# Altium schematic symbol library STeRG-ICs-Standard.SchLib: 50 symbols (part 1 of 2)
Pins are listed as number, name and electrical type; pins without a type are passive.

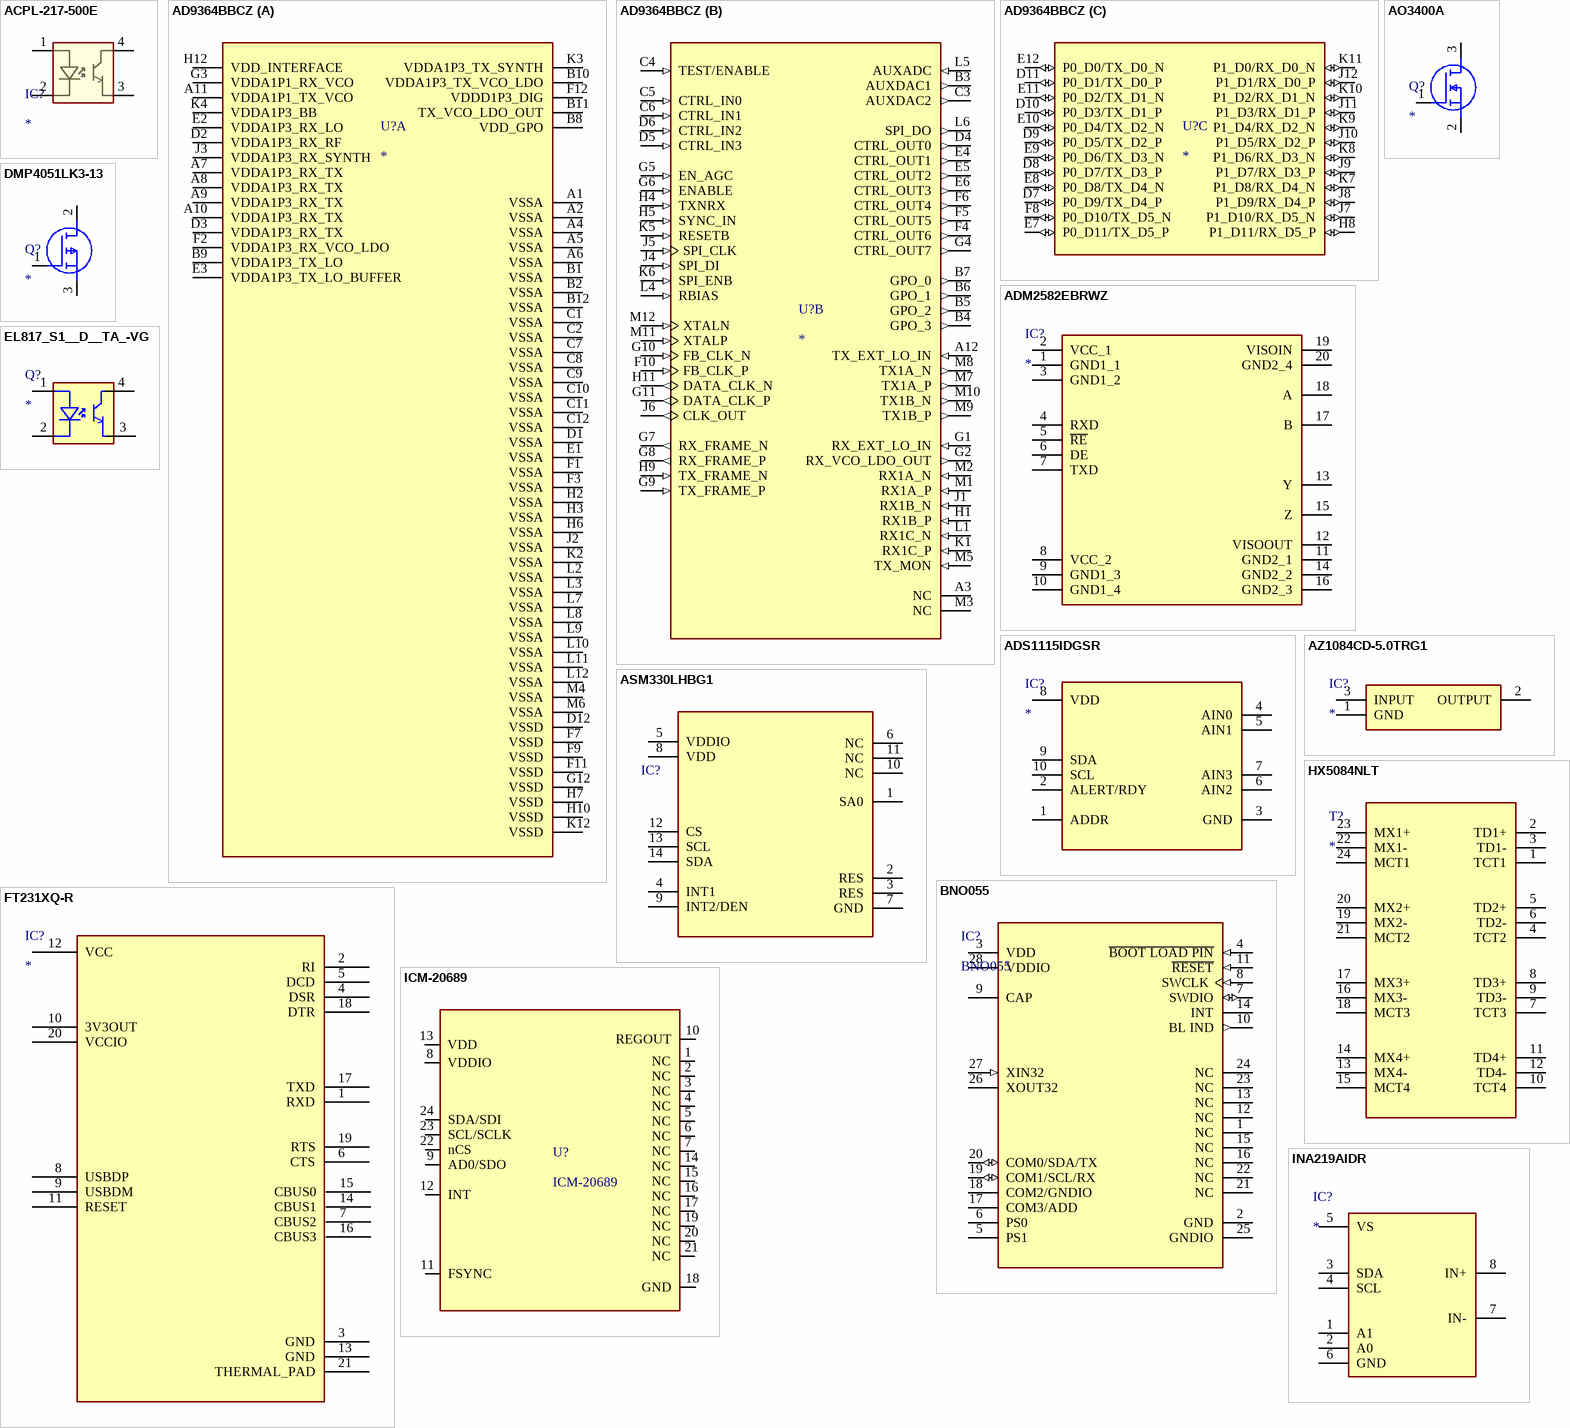
[diagram p0: symbols ACPL-217-500E to INA219AIDR]

## ACPL-217-500E
designator IC?
Optocoupler; Manufacturer_Name: Avago Technologies; Manufacturer_Part_Number: ACPL-217-500E; Datasheet Link: https://datasheet.datasheetarchive.com/originals/distributors/SFDatasheet-4/sf-00083403.pdf; Height: 2.42mm; Mouser Part Number: 630-ACPL-217-500E; Mouser Price/Stock: https://www.mouser.co.uk/ProductDetail/Broadcom-Avago/ACPL-217-500E?qs=dcm2zoLQumDueNtFOKZqaQ%3D%3D
footprint SOIC127P700X242-4N
footprint SOIC127P700X242-4N
pins: 1, 2, 3, 4

## AD9364BBCZ
designator U?
1 x 1 RF Agile Transceiver; MF: Analog Devices; MP: AD9364BBCZ; SnapEDA_Link: https://www.snapeda.com/parts/AD9364BBCZ/Analog+Devices/view-part/?ref=snap; Package: CSPBGA -144 Analog Devices; Value: *; Check_prices: https://www.snapeda.com/parts/AD9364BBCZ/Analog+Devices/view-part/?ref=eda
footprint BGA144C80P12X12_1000X1000X170
part A pins: A1 VSSA (power), A2 VSSA (power), A4 VSSA (power), A5 VSSA (power), A6 VSSA (power), A7 VDDA1P3_RX_TX (power), A8 VDDA1P3_RX_TX (power), A9 VDDA1P3_RX_TX (power), A10 VDDA1P3_RX_TX (power), A11 VDDA1P1_TX_VCO (power), B1 VSSA (power), B2 VSSA (power), B8 VDD_GPO (power), B9 VDDA1P3_TX_LO (power), B10 VDDA1P3_TX_VCO_LDO (power), B11 TX_VCO_LDO_OUT (power), B12 VSSA (power), C1 VSSA (power), C2 VSSA (power), C7 VSSA (power), C8 VSSA (power), C9 VSSA (power), C10 VSSA (power), C11 VSSA (power), C12 VSSA (power), D1 VSSA (power), D2 VDDA1P3_RX_RF (power), D3 VDDA1P3_RX_TX (power), D12 VSSD (power), E1 VSSA (power), E2 VDDA1P3_RX_LO (power), E3 VDDA1P3_TX_LO_BUFFER (power), F1 VSSA (power), F2 VDDA1P3_RX_VCO_LDO (power), F3 VSSA (power), F7 VSSD (power), F9 VSSD (power), F11 VSSD (power), F12 VDDD1P3_DIG (power), G3 VDDA1P1_RX_VCO (power), G12 VSSD (power), H2 VSSA (power), H3 VSSA (power), H6 VSSA (power), H7 VSSD (power), H10 VSSD (power), H12 VDD_INTERFACE (power), J2 VSSA (power), J3 VDDA1P3_RX_SYNTH (power), K2 VSSA (power), K3 VDDA1P3_TX_SYNTH (power), K4 VDDA1P3_BB (power), K12 VSSD (power), L2 VSSA (power), L3 VSSA (power), L7 VSSA (power), L8 VSSA (power), L9 VSSA (power), L10 VSSA (power), L11 VSSA (power), L12 VSSA (power), M4 VSSA (power), M6 VSSA (power)
part B pins: A3 NC, A12 TX_EXT_LO_IN (in), B3 AUXDAC1 (out), B4 GPO_3 (out), B5 GPO_2 (out), B6 GPO_1 (out), B7 GPO_0 (out), C3 AUXDAC2 (out), C4 TEST/ENABLE (in), C5 CTRL_IN0 (in), C6 CTRL_IN1 (in), D4 CTRL_OUT0 (out), D5 CTRL_IN3 (in), D6 CTRL_IN2 (in), E4 CTRL_OUT1 (out), E5 CTRL_OUT2 (out), E6 CTRL_OUT3 (out), F4 CTRL_OUT6 (out), F5 CTRL_OUT5 (out), F6 CTRL_OUT4 (out), F10 FB_CLK_P (in), G1 RX_EXT_LO_IN (in), G2 RX_VCO_LDO_OUT (out), G4 CTRL_OUT7 (out), G5 EN_AGC (in), G6 ENABLE (in), G7 RX_FRAME_N (out), G8 RX_FRAME_P (out), G9 TX_FRAME_P (in), G10 FB_CLK_N (in), G11 DATA_CLK_P (out), H1 RX1B_P (in), H4 TXNRX (in), H5 SYNC_IN (in), H9 TX_FRAME_N (in), H11 DATA_CLK_N (out), J1 RX1B_N (in), J4 SPI_DI (in), J5 SPI_CLK (in), J6 CLK_OUT (out), K1 RX1C_P (in), K5 RESETB (in), K6 SPI_ENB (in), L1 RX1C_N (in), L4 RBIAS (in), L5 AUXADC (in), L6 SPI_DO (out), M1 RX1A_P (in), M2 RX1A_N (in), M3 NC, M5 TX_MON (in), M7 TX1A_P (out), M8 TX1A_N (out), M9 TX1B_P (out), M10 TX1B_N (out), M11 XTALP (in), M12 XTALN (in)
part C pins: D7 P0_D9/TX_D4_P (io), D8 P0_D7/TX_D3_P (io), D9 P0_D5/TX_D2_P (io), D10 P0_D3/TX_D1_P (io), D11 P0_D1/TX_D0_P (io), E7 P0_D11/TX_D5_P (io), E8 P0_D8/TX_D4_N (io), E9 P0_D6/TX_D3_N (io), E10 P0_D4/TX_D2_N (io), E11 P0_D2/TX_D1_N (io), E12 P0_D0/TX_D0_N (io), F8 P0_D10/TX_D5_N (io), H8 P1_D11/RX_D5_P (io), J7 P1_D10/RX_D5_N (io), J8 P1_D9/RX_D4_P (io), J9 P1_D7/RX_D3_P (io), J10 P1_D5/RX_D2_P (io), J11 P1_D3/RX_D1_P (io), J12 P1_D1/RX_D0_P (io), K7 P1_D8/RX_D4_N (io), K8 P1_D6/RX_D3_N (io), K9 P1_D4/RX_D2_N (io), K10 P1_D2/RX_D1_N (io), K11 P1_D0/RX_D0_N (io)

## ADM2582EBRWZ
designator IC?
Integrated Circuit; Manufacturer_Name: Analog Devices; Manufacturer_Part_Number: ADM2582EBRWZ; Datasheet Link: http://www.analog.com/static/imported-files/data_sheets/ADM2582E_2587E.pdf; Height: 2.65mm; Mouser Part Number: 584-ADM2582EBRWZ; Mouser Price/Stock: https://www.mouser.co.uk/ProductDetail/Analog-Devices/ADM2582EBRWZ?qs=BpaRKvA4VqEUmXw45IunQg%3D%3D; Arrow Part Number: ADM2582EBRWZ; Arrow Price/Stock: https://www.arrow.com/en/products/adm2582ebrwz/analog-devices?utm_currency=USD&region=nac
footprint SOIC127P1032X265-20N
pins: 1 GND1_1, 2 VCC_1, 3 GND1_2, 4 RXD, 5 ~{RE}, 6 DE, 7 TXD, 8 VCC_2, 9 GND1_3, 10 GND1_4, 11 GND2_1, 12 VISOOUT, 13 Y, 14 GND2_2, 15 Z, 16 GND2_3, 17 B, 18 A, 19 VISOIN, 20 GND2_4

## ADS1115IDGSR
designator IC?
Integrated Circuit; Manufacturer_Name: Texas Instruments; Manufacturer_Part_Number: ADS1115IDGSR; Datasheet Link: http://www.ti.com/lit/gpn/ADS1115; Height: 1.1mm; Mouser Part Number: 595-ADS1115IDGSR; Mouser Price/Stock: https://www.mouser.co.uk/ProductDetail/Texas-Instruments/ADS1115IDGSR?qs=IK5e5L0zOXjKCJoVMhYO%2FQ%3D%3D; Arrow Part Number: ADS1115IDGSR; Arrow Price/Stock: https://www.arrow.com/en/products/ads1115idgsr/texas-instruments?utm_currency=USD&region=nac
footprint SOP50P490X110-10N
pins: 1 ADDR, 2 ALERT/RDY, 3 GND, 4 AIN0, 5 AIN1, 6 AIN2, 7 AIN3, 8 VDD, 9 SDA, 10 SCL

## AO3400A
designator Q?
MOSFET (N-Channel); Manufacturer_Name: Alpha & Omega Semiconductors; Manufacturer_Part_Number: AO3400A; Datasheet Link: http://aosmd.com/res/data_sheets/AO3400A.pdf; Height: 1.25mm; Arrow Part Number: AO3400A; Arrow Price/Stock: https://www.arrow.com/en/products/ao3400a/alpha-and-omega-semiconductor?utm_currency=USD&region=nac
footprint SOT95P280X125-3N
pins: 1 G, 2 S, 3 D

## ASM330LHBG1
designator IC?
footprint LGA-14L 2.5 x 3.0 x 0.86
pins: 1 SA0, 2 RES, 3 RES, 4 INT1, 5 VDDIO, 6 NC, 7 GND, 8 VDD, 9 INT2/DEN, 10 NC, 11 NC, 12 CS, 13 SCL, 14 SDA

## AZ1084CD-5.0TRG1
designator IC?
Integrated Circuit; Manufacturer_Name: Diodes Incorporated; Manufacturer_Part_Number: AZ1084CD-1.8TRG1; Datasheet Link: https://www.diodes.com//assets/Datasheets/AZ1084C.pdf; Height: 2.527mm; Mouser Part Number: 621-AZ1084CD-1.8TRG1; Mouser Price/Stock: https://www.mouser.co.uk/ProductDetail/Diodes-Incorporated/AZ1084CD-1.8TRG1?qs=5V6w%252Be2aIqZZEOFKaZZErQ%3D%3D; Arrow Part Number: AZ1084CD-1.8TRG1; Arrow Price/Stock: https://www.arrow.com/en/products/az1084cd-1.8trg1/diodes-incorporated
footprint AZ1084CD18TRG1
pins: 1 GND, 2 OUTPUT, 3 INPUT

## BNO055
designator IC?
footprint BNO0XX
pins: 1 NC, 2 GND, 3 VDD (power), 4 ~{BOOT LOAD PIN} (in), 5 PS1, 6 PS0, 7 SWDIO (io), 8 SWCLK (in), 9 CAP, 10 BL IND (out), 11 ~{RESET} (in), 12 NC, 13 NC, 14 INT, 15 NC, 16 NC, 17 COM3/ADD, 18 COM2/GNDIO, 19 COM1/SCL/RX (io), 20 COM0/SDA/TX (io), 21 NC, 22 NC, 23 NC, 24 NC, 25 GNDIO, 26 XOUT32, 27 XIN32 (in), 28 VDDIO (power)

## DMP4051LK3-13
designator Q?
MOSFET (P-Channel); Manufacturer_Name: Diodes Incorporated; Manufacturer_Part_Number: DMP4051LK3-13; Datasheet Link: https://www.diodes.com//assets/Datasheets/DMP4051LK3.pdf; Height: 2.52mm; Mouser Part Number: 621-DMP4051LK3-13; Mouser Price/Stock: https://www.mouser.co.uk/ProductDetail/Diodes-Incorporated/DMP4051LK3-13?qs=4YT44p7w2bvk9gQBZgRolw%3D%3D; Arrow Part Number: DMP4051LK3-13; Arrow Price/Stock: https://www.arrow.com/en/products/dmp4051lk3-13/diodes-incorporated?utm_currency=USD&region=nac
footprint ST_DPAK_1
pins: 1 G, 2 D, 3 S

## EL817_S1__D__TA_-VG
designator Q?
Optocoupler; Manufacturer_Name: Everlight; Manufacturer_Part_Number: EL817(S1)(D)(TA)-VG; Datasheet Link: http://www.mouser.com/ds/2/143/201407061834389632-598371.pdf; Height: 3.9mm; Mouser Part Number: 638-EL817S1DTA-VG; Mouser Price/Stock: https://www.mouser.co.uk/ProductDetail/Everlight/EL817S1DTA-VG?qs=8PzhAHr7IdOwcx8dMEEN7g%3D%3D; ComponentLink1Description: Purchase; ComponentLink1URL: https://robu.in/product/el817-smd-4-transistor-output-optocoupler/
footprint SOP254P1030X390-4N
pins: 1, 2, 3, 4

## FT231XQ-R
designator IC?
Integrated Circuit; Manufacturer_Name: FTDI Chip; Manufacturer_Part_Number: FT231XQ-R; Datasheet Link: http://www.ftdichip.com/Support/Documents/DataSheets/ICs/DS_FT231X.pdf; Height: 0.8mm; Mouser Part Number: 895-FT231XQ-R; Mouser Price/Stock: https://www.mouser.co.uk/ProductDetail/FTDI/FT231XQ-R?qs=Gp1Yz1mis3VkAf3iW%252BkumQ%3D%3D; Arrow Part Number: FT231XQ-R; Arrow Price/Stock: https://www.arrow.com/en/products/ft231xq-r/ftdi-chip?region=nac
footprint QFN50P400X400X80-21N
pins: 1 RXD, 2 RI, 3 GND, 4 DSR, 5 DCD, 6 CTS, 7 CBUS2, 8 USBDP, 9 USBDM, 10 3V3OUT, 11 RESET, 12 VCC, 13 GND, 14 CBUS1, 15 CBUS0, 16 CBUS3, 17 TXD, 18 DTR, 19 RTS, 20 VCCIO, 21 THERMAL_PAD

## HX5084NLT
designator T?
Ethernet Signal Transformer; Manufacturer_Name: YAGEO; Manufacturer_Part_Number: HX5084NLT; Datasheet Link: https://productfinder.pulseelectronics.com/api/open/part-attachments/datasheet/hx5084nlt; Height: 4.1402mm; Mouser Part Number: 673-HX5084NLT; Mouser Price/Stock: https://www.mouser.co.uk/ProductDetail/Pulse-Electronics/HX5084NLT?qs=afupL77xwePI46UjbaB5Gg%3D%3D; Arrow Part Number: HX5084NLT; Arrow Price/Stock: https://www.arrow.com/en/products/hx5084nlt/pulse-electronics-corporation?utm_currency=USD&region=nac
footprint HX5084NLT
pins: 1 TCT1, 2 TD1+, 3 TD1-, 4 TCT2, 5 TD2+, 6 TD2-, 7 TCT3, 8 TD3+, 9 TD3-, 10 TCT4, 11 TD4+, 12 TD4-, 13 MX4-, 14 MX4+, 15 MCT4, 16 MX3-, 17 MX3+, 18 MCT3, 19 MX2-, 20 MX2+, 21 MCT2, 22 MX1-, 23 MX1+, 24 MCT1

## ICM-20689
designator U?
High Performance 6-Axis MEMS IMU; Manufacturer: TDK InvenSense; Manufacturer Part Number: ICM-20689
footprint QFN50P400X400X95_HS-25N (Footprint not found)
pins: 1 NC, 2 NC, 3 NC, 4 NC, 5 NC, 6 NC, 7 NC, 8 VDDIO, 9 AD0/SDO, 10 REGOUT, 11 FSYNC, 12 INT, 13 VDD, 14 NC, 15 NC, 16 NC, 17 NC, 18 GND, 19 NC, 20 NC, 21 NC, 22 nCS, 23 SCL/SCLK, 24 SDA/SDI

## INA219AIDR
designator IC?
Integrated Circuit; Manufacturer_Name: Texas Instruments; Manufacturer_Part_Number: INA219AIDR; Datasheet Link: http://www.ti.com/lit/gpn/ina219; Height: 1.75mm; Mouser Part Number: 595-INA219AIDR; Mouser Price/Stock: https://www.mouser.co.uk/ProductDetail/Texas-Instruments/INA219AIDR?qs=XGzIaZb%2FFYIE5YcOHTnKDA%3D%3D; Arrow Part Number: INA219AIDR; Arrow Price/Stock: https://www.arrow.com/en/products/ina219aidr/texas-instruments?utm_currency=USD&region=nac
footprint SOIC127P600X175-8N
pins: 1 A1, 2 A0, 3 SDA, 4 SCL, 5 VS, 6 GND, 7 IN-, 8 IN+

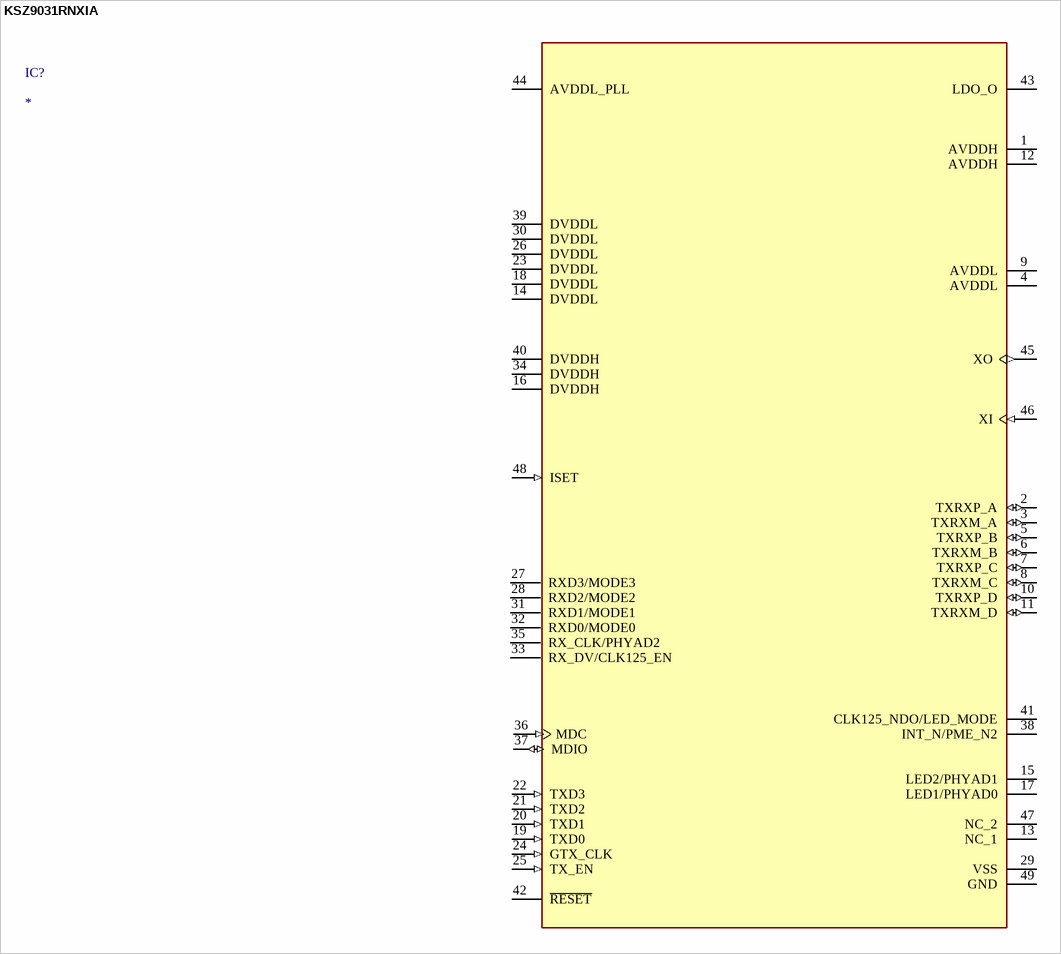
[diagram p1: symbol KSZ9031RNXIA]

## KSZ9031RNXIA
designator IC?
RGMII Ethernet Transceiver with VDDL LDO; Manufacturer_Name: Microchip; Manufacturer_Part_Number: KSZ9031RNXIA; Datasheet Link: https://ww1.microchip.com/downloads/en/devicedoc/00002117f.pdf; Height: 0.9mm; Mouser Part Number: 998-KSZ9031RNXIA; Mouser Price/Stock: https://www.mouser.co.uk/ProductDetail/Microchip-Technology/KSZ9031RNXIA?qs=lBdOJv1PVCGadCZMzb63mg%3D%3D; Arrow Part Number: KSZ9031RNXIA; Arrow Price/Stock: https://www.arrow.com/en/products/ksz9031rnxia/microchip-technology?region=europe
footprint QFN50P700X700X90-49N
pins: 1 AVDDH, 2 TXRXP_A (io), 3 TXRXM_A (io), 4 AVDDL, 5 TXRXP_B (io), 6 TXRXM_B (io), 7 TXRXP_C (io), 8 TXRXM_C (io), 9 AVDDL, 10 TXRXP_D (io), 11 TXRXM_D (io), 12 AVDDH, 13 NC_1, 14 DVDDL, 15 LED2/PHYAD1, 16 DVDDH, 17 LED1/PHYAD0, 18 DVDDL, 19 TXD0 (in), 20 TXD1 (in), 21 TXD2 (in), 22 TXD3 (in), 23 DVDDL, 24 GTX_CLK (in), 25 TX_EN (in), 26 DVDDL, 27 RXD3/MODE3, 28 RXD2/MODE2, 29 VSS, 30 DVDDL, 31 RXD1/MODE1, 32 RXD0/MODE0, 33 RX_DV/CLK125_EN, 34 DVDDH, 35 RX_CLK/PHYAD2, 36 MDC (in), 37 MDIO (io), 38 INT_N/PME_N2, 39 DVDDL, 40 DVDDH, 41 CLK125_NDO/LED_MODE, 42 ~{RESET}, 43 LDO_O, 44 AVDDL_PLL, 45 XO (out), 46 XI (in), 47 NC_2, 48 ISET (in), 49 GND

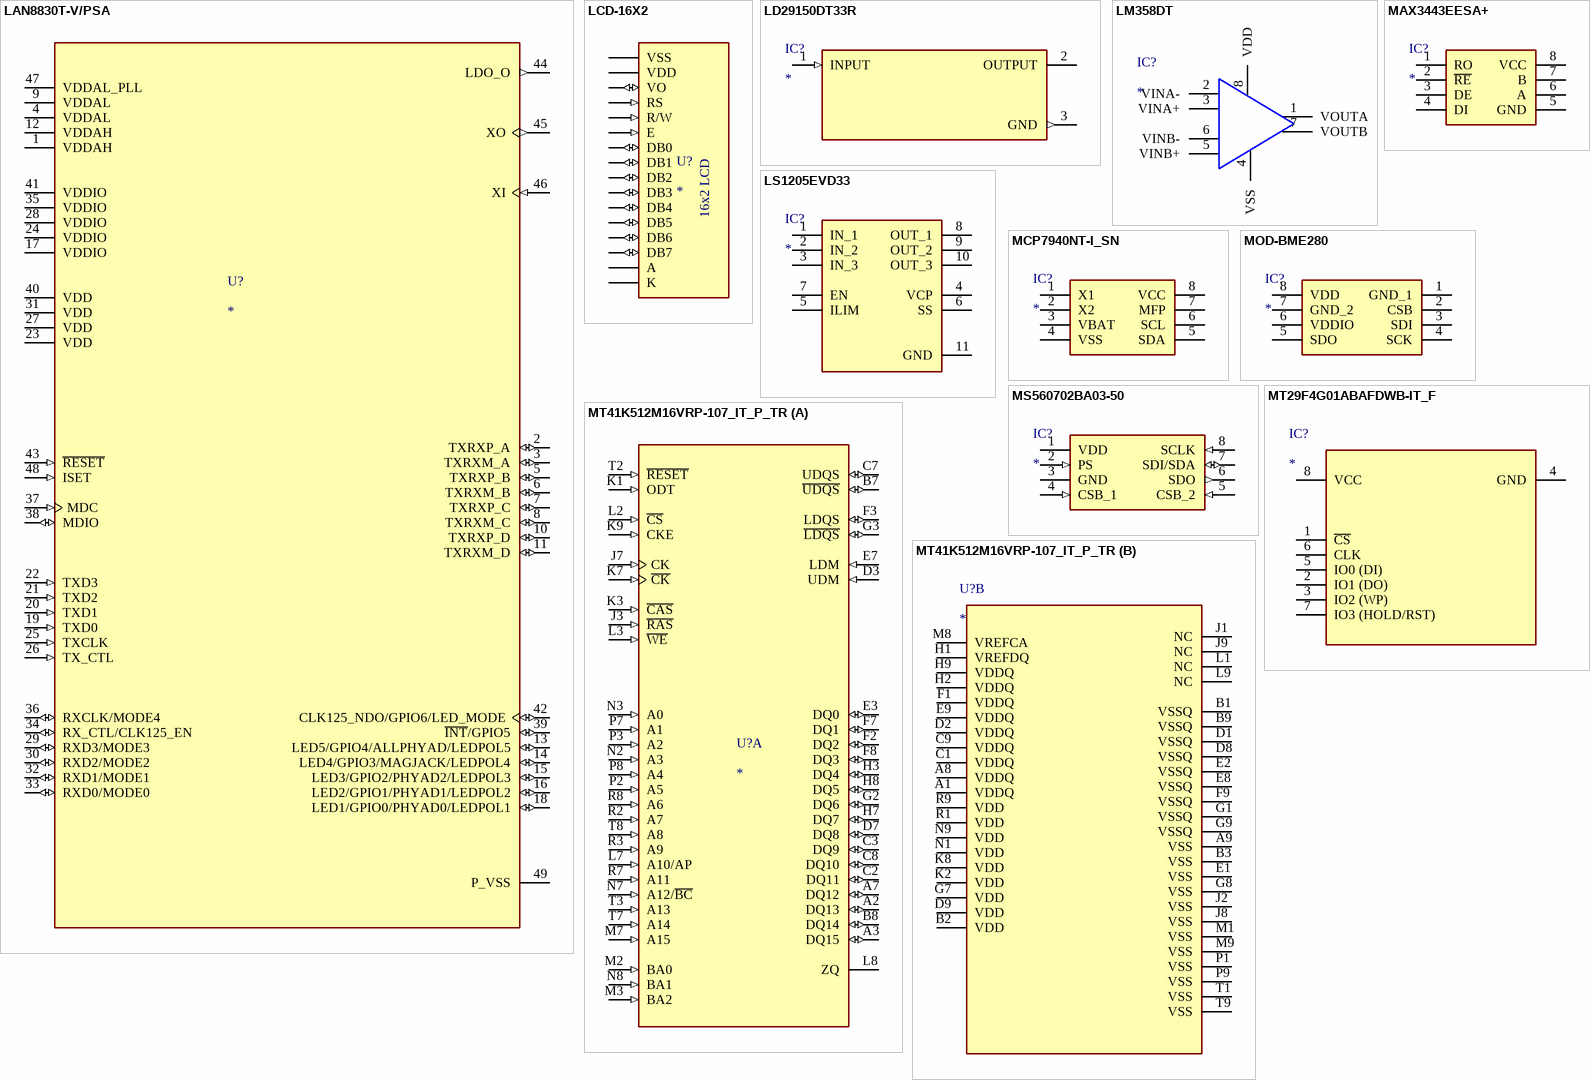
[diagram p2: symbols LAN8830T-V/PSA to MT41K512M16VRP-107_IT_P_TR]

## LAN8830T-V/PSA
designator U?
4/4 Transceiver Full, Half Ethernet 48-VQFN (7x7); MF: Microchip Technology; MP: LAN8830T-V/PSA; SnapEDA_Link: https://www.snapeda.com/parts/LAN8830T-V/PSA/Microchip+Technology/view-part/?ref=snap; Package: None; Value: *; Check_prices: https://www.snapeda.com/parts/LAN8830T-V/PSA/Microchip+Technology/view-part/?ref=eda
footprint QFN50P700X700X100-49N
pins: 1 VDDAH (power), 2 TXRXP_A (io), 3 TXRXM_A (io), 4 VDDAL (power), 5 TXRXP_B (io), 6 TXRXM_B (io), 7 TXRXP_C (io), 8 TXRXM_C (io), 9 VDDAL (power), 10 TXRXP_D (io), 11 TXRXM_D (io), 12 VDDAH (power), 13 LED5/GPIO4/ALLPHYAD/LEDPOL5 (io), 14 LED4/GPIO3/MAGJACK/LEDPOL4 (io), 15 LED3/GPIO2/PHYAD2/LEDPOL3 (io), 16 LED2/GPIO1/PHYAD1/LEDPOL2 (io), 17 VDDIO (power), 18 LED1/GPIO0/PHYAD0/LEDPOL1 (io), 19 TXD0 (in), 20 TXD1 (in), 21 TXD2 (in), 22 TXD3 (in), 23 VDD (power), 24 VDDIO (power), 25 TXCLK (in), 26 TX_CTL (in), 27 VDD (power), 28 VDDIO (power), 29 RXD3/MODE3 (io), 30 RXD2/MODE2 (io), 31 VDD (power), 32 RXD1/MODE1 (io), 33 RXD0/MODE0 (io), 34 RX_CTL/CLK125_EN (io), 35 VDDIO (power), 36 RXCLK/MODE4 (io), 37 MDC (in), 38 MDIO (io), 39 ~{INT}/GPIO5 (io), 40 VDD (power), 41 VDDIO (power), 42 CLK125_NDO/GPIO6/LED_MODE (io), 43 ~{RESET} (in), 44 LDO_O (out), 45 XO (out), 46 XI (in), 47 VDDAL_PLL (power), 48 ISET (in), 49 P_VSS (power)

## LCD-16X2
designator U?
Display Development Tools 16x2 Black on Green Char LCD w Backlight; MF: Gravitech; MP: LCD-16X2; SnapEDA_Link: https://www.snapeda.com/parts/LCD-16X2/Gravitech/view-part/?ref=snap; Package: None; Value: *; Check_prices: https://www.snapeda.com/parts/LCD-16X2/Gravitech/view-part/?ref=eda
footprint MODULE_LCD-16X2
pins: 1 VSS (power), 2 VDD (power), 3 VO (io), 4 RS (in), 5 R/W (in), 6 E (in), 7 DB0 (io), 8 DB1 (io), 9 DB2 (io), 10 DB3 (io), 11 DB4 (io), 12 DB5 (io), 13 DB6 (io), 14 DB7 (io), 15 A (power), 16 K (power)
text: 16x2 LCD

## LD29150DT33R
designator IC?
Integrated Circuit; Manufacturer_Name: STMicroelectronics; Manufacturer_Part_Number: LD29150DT33R; Datasheet Link: http://www.st.com/web/en/resource/technical/document/datasheet/CD00003403.pdf; Mouser Part Number: 511-LD29150DT33R; Mouser Price/Stock: https://www.mouser.co.uk/ProductDetail/STMicroelectronics/LD29150DT33R?qs=M4RLcaOHglr1iYLz8rxZ4g%3D%3D; Arrow Part Number: LD29150DT33R; Arrow Price/Stock: https://www.arrow.com/en/products/ld29150dt33r/stmicroelectronics?region=nac
footprint ST_DPAK_1
pins: 1 INPUT (in), 2 OUTPUT, 3 GND (out)

## LM358DT
designator IC?
Integrated Circuit; Manufacturer_Name: Microchip; Manufacturer_Part_Number: MCP6002-I/SN; Datasheet Link: https://datasheet.datasheetarchive.com/originals/distributors/SFDatasheet-4/sf-00090086.pdf; Height: 1.75mm; Mouser Part Number: 579-MCP6002-I/SN; Mouser Price/Stock: https://www.mouser.co.uk/ProductDetail/Microchip-Technology/MCP6002-I-SN?qs=cQYLKLPzRJlt69SDaZwGcA%3D%3D; Arrow Part Number: MCP6002-I/SN; Arrow Price/Stock: https://www.arrow.com/en/products/mcp6002-isn/microchip-technology?region=nac
footprint SOIC127P600X175-8N
pins: 1 VOUTA, 2 VINA-, 3 VINA+, 4 VSS, 5 VINB+, 6 VINB-, 7 VOUTB, 8 VDD

## LS1205EVD33
designator IC?
EFuse IC; Manufacturer_Name: LITTELFUSE; Manufacturer_Part_Number: LS1205EVD33; Datasheet Link: https://www.littelfuse.com/media?resourcetype=datasheets&itemid=b40a8809-c1ad-459d-a34c-84532dbddcb7&filename=littelfuse-protection-ic-ls1205exd33--datasheet; Height: 0.8mm; Mouser Part Number: 576-LS1205EVD33; Mouser Price/Stock: https://www.mouser.co.uk/ProductDetail/Littelfuse/LS1205EVD33?qs=4ASt3YYao0VRtislHe5uQQ%3D%3D; Arrow Part Number: LS1205EVD33; Arrow Price/Stock: https://www.arrow.com/en/products/ls1205evd33/littelfuse?utm_currency=USD&region=nac
footprint LS1205EVD33
pins: 1 IN_1, 2 IN_2, 3 IN_3, 4 VCP, 5 ILIM, 6 SS, 7 EN, 8 OUT_1, 9 OUT_2, 10 OUT_3, 11 GND

## MAX3443EESA+
designator IC?
Integrated Circuit; Manufacturer_Name: Analog Devices; Manufacturer_Part_Number: MAX3443EESA+; Datasheet Link: https://datasheet.datasheetarchive.com/originals/distributors/Datasheets-DGA13/1189461.pdf; Height: 1.75mm; Mouser Part Number: 700-MAX3443EESA; Mouser Price/Stock: https://www.mouser.com/Search/Refine.aspx?Keyword=700-MAX3443EESA
footprint SOIC127P600X175-8N
pins: 1 RO, 2 ~{RE}, 3 DE, 4 DI, 5 GND, 6 A, 7 B, 8 VCC

## MCP7940NT-I_SN
designator IC?
Integrated Circuit; Manufacturer_Name: Microchip; Manufacturer_Part_Number: MCP7940NT-I/SN; Datasheet Link: http://www.microchip.com/mymicrochip/filehandler.aspx?ddocname=en553487; Height: 1.75mm; Mouser Part Number: 579-MCP7940NT-I/SN; Mouser Price/Stock: https://www.mouser.co.uk/ProductDetail/Microchip-Technology/MCP7940NT-I-SN?qs=o%2FJGMiCJeCObBF3PnsLA7Q%3D%3D; Arrow Part Number: MCP7940NT-I/SN; Arrow Price/Stock: https://www.arrow.com/en/products/mcp7940nt-isn/microchip-technology?region=nac
footprint SOIC127P600X175-8N
pins: 1 X1, 2 X2, 3 VBAT, 4 VSS, 5 SDA, 6 SCL, 7 MFP, 8 VCC

## MOD-BME280
designator IC?
Integrated Circuit; Manufacturer_Name: Olimex Ltd.; Manufacturer_Part_Number: MOD-BME280; Datasheet Link: https://eu.mouser.com/datasheet/2/306/BME280-1620794.pdf; Height: 1mm; Mouser Part Number: 909-MOD-BME280; Mouser Price/Stock: https://www.mouser.co.uk/ProductDetail/Olimex-Ltd/MOD-BME280?qs=%252B6g0mu59x7K82sEO3yPPgg%3D%3D
footprint MODBME280
pins: 1 GND_1, 2 CSB, 3 SDI, 4 SCK, 5 SDO, 6 VDDIO, 7 GND_2, 8 VDD

## MS560702BA03-50
designator IC?
Integrated Circuit; Manufacturer_Name: TE Connectivity; Manufacturer_Part_Number: MS560702BA03-50; Datasheet Link: https://www.te.com/commerce/DocumentDelivery/DDEController?Action=srchrtrv&DocNm=MS5607-02BA03&DocType=Data%20Sheet&DocLang=English&PartCntxt=MS560702BA03-50&DocFormat=pdf; Mouser Part Number: 824-MS560702BA03-50; Mouser Price/Stock: https://www.mouser.co.uk/ProductDetail/Measurement-Specialties/MS560702BA03-50?qs=urSpXqmdEVImCZG1H%252BT8ng%3D%3D; Arrow Part Number: MS560702BA03-50; Arrow Price/Stock: https://www.arrow.com/en/products/ms560702ba03-50/te-connectivity?region=nac
footprint MS5607-02BA03
pins: 1 VDD (power), 2 PS (in), 3 GND (power), 4 CSB_1 (in), 5 CSB_2 (in), 6 SDO (out), 7 SDI/SDA (io), 8 SCLK (in)

## MT29F4G01ABAFDWB-IT_F
designator IC?
Integrated Circuit; Manufacturer_Name: Micron; Manufacturer_Part_Number: MT29F4G01ABAFDWB-IT:F; Datasheet Link: https://www.farnell.com/datasheets/3151403.pdf; Height: 0.65mm; Mouser Part Number: 340-359563; Mouser Price/Stock: https://www.mouser.co.uk/ProductDetail/Micron/MT29F4G01ABAFDWB-ITF?qs=wUXugUrL1qwrjb7To7JPbA%3D%3D; Arrow Part Number: MT29F4G01ABAFDWB-IT:F; Arrow Price/Stock: null?region=nac
footprint SON127P800X600X65-8N
pins: 1 ~{CS}, 2 IO1 (DO), 3 IO2 (WP), 4 GND, 5 IO0 (DI), 6 CLK, 7 IO3 (HOLD/RST), 8 VCC

## MT41K512M16VRP-107_IT_P_TR
designator U?
SDRAM - DDR3L Memory IC 8Gbit Parallel 933 MHz 20 ns 96-FBGA (8x14); MF: Micron Technology; MP: MT41K512M16VRP-107 IT:P TR; Package: None; Availability: In Stock; Check_prices: https://www.snapeda.com/parts/MT41K512M16VRP-107%20IT:P%20TR/Micron/view-part/?ref=eda; Price: None; SnapEDA_Link: https://www.snapeda.com/parts/MT41K512M16VRP-107%20IT:P%20TR/Micron/view-part/?ref=snap; Purchase-URL: https://pricing.snapeda.com/search/part/MT41K512M16VRP-107 IT:P TR/?ref=eda; Value: *
footprint BGA96C80P9X16_800X1400X120
part A pins: A2 DQ13 (io), A3 DQ15 (io), A7 DQ12 (io), B7 ~{UDQS} (io), B8 DQ14 (io), C2 DQ11 (io), C3 DQ9 (io), C7 UDQS (io), C8 DQ10 (io), D3 UDM (in), D7 DQ8 (io), E3 DQ0 (io), E7 LDM (in), F2 DQ2 (io), F3 LDQS (io), F7 DQ1 (io), F8 DQ3 (io), G2 DQ6 (io), G3 ~{LDQS} (io), H3 DQ4 (io), H7 DQ7 (io), H8 DQ5 (io), J3 ~{RAS} (in), J7 CK (in), K1 ODT (in), K3 ~{CAS} (in), K7 ~{CK} (in), K9 CKE (in), L2 ~{CS} (in), L3 ~{WE} (in), L7 A10/AP (in), L8 ZQ, M2 BA0 (in), M3 BA2 (in), M7 A15 (in), N2 A3 (in), N3 A0 (in), N7 A12/~{BC} (in), N8 BA1 (in), P2 A5 (in), P3 A2 (in), P7 A1 (in), P8 A4 (in), R2 A7 (in), R3 A9 (in), R7 A11 (in), R8 A6 (in), T2 ~{RESET} (in), T3 A13 (in), T7 A14 (in), T8 A8 (in)
part B pins: A1 VDDQ (power), A8 VDDQ (power), A9 VSS (power), B1 VSSQ (power), B2 VDD (power), B3 VSS (power), B9 VSSQ (power), C1 VDDQ (power), C9 VDDQ (power), D1 VSSQ (power), D2 VDDQ (power), D8 VSSQ (power), D9 VDD (power), E1 VSS (power), E2 VSSQ (power), E8 VSSQ (power), E9 VDDQ (power), F1 VDDQ (power), F9 VSSQ (power), G1 VSSQ (power), G7 VDD (power), G8 VSS (power), G9 VSSQ (power), H1 VREFDQ (power), H2 VDDQ (power), H9 VDDQ (power), J1 NC, J2 VSS (power), J8 VSS (power), J9 NC, K2 VDD (power), K8 VDD (power), L1 NC, L9 NC, M1 VSS (power), M8 VREFCA (power), M9 VSS (power), N1 VDD (power), N9 VDD (power), P1 VSS (power), P9 VSS (power), R1 VDD (power), R9 VDD (power), T1 VSS (power), T9 VSS (power)

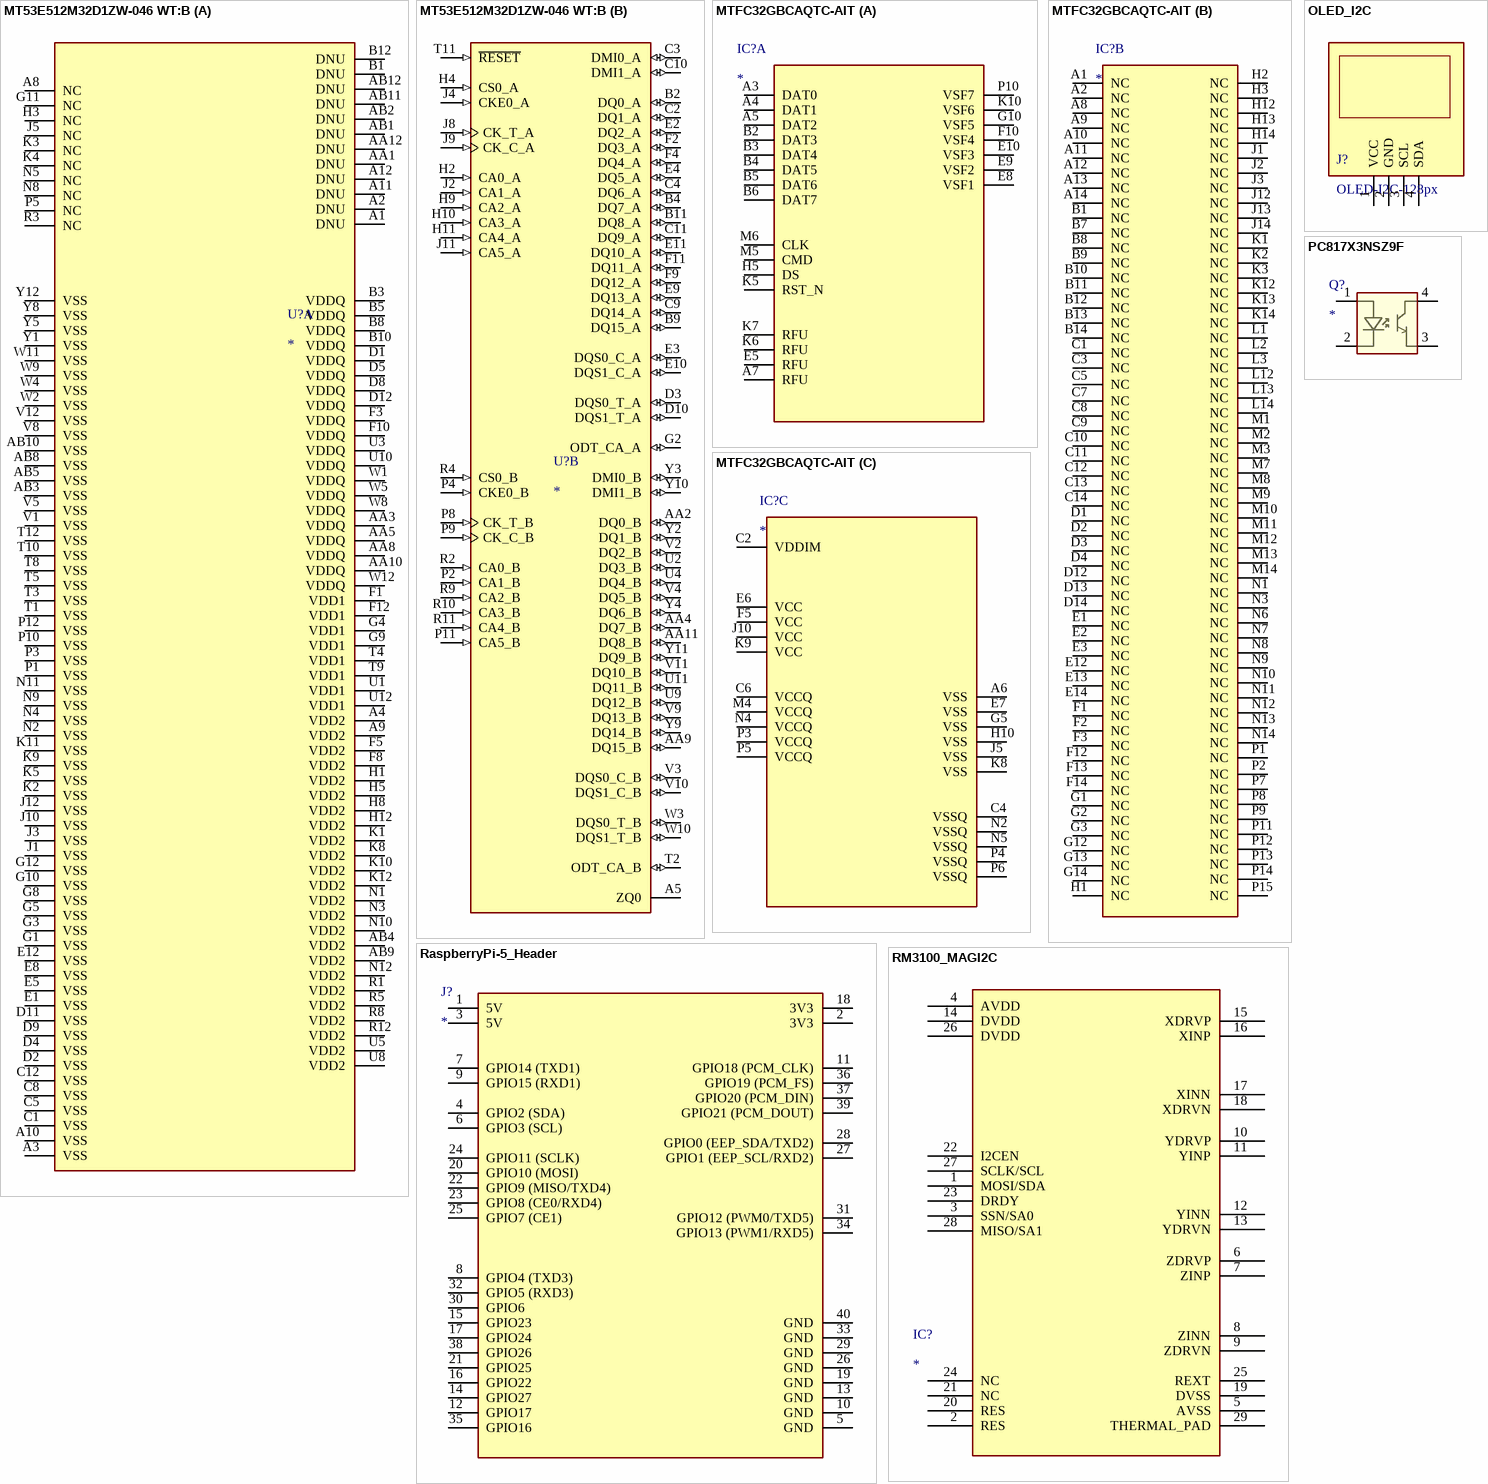
[diagram p3: symbols MT53E512M32D1ZW-046 WT:B to RM3100_MAGI2C]

## MT53E512M32D1ZW-046 WT:B
designator U?
SDRAM - Mobile LPDDR4 Memory IC 16Gbit Parallel 2.133 GHz 3.5 ns 200-TFBGA (10x14.5); MF: Micron Technology; MP: MT53E512M32D1ZW-046 IT:B; SnapEDA_Link: https://www.snapeda.com/parts/MT53E512M32D1ZW-046%20IT:B/Micron/view-part/?ref=snap; Package: None; Value: *; Check_prices: https://www.snapeda.com/parts/MT53E512M32D1ZW-046%20IT:B/Micron/view-part/?ref=eda
footprint BGA200C65P12X22_1000X1450X105 (Footprint not found)
part A pins: A1 DNU, A2 DNU, A3 VSS (power), A4 VDD2 (power), A8 NC, A9 VDD2 (power), A10 VSS (power), A11 DNU, A12 DNU, AA1 DNU, AA3 VDDQ (power), AA5 VDDQ (power), AA8 VDDQ (power), AA10 VDDQ (power), AA12 DNU, AB1 DNU, AB2 DNU, AB3 VSS (power), AB4 VDD2 (power), AB5 VSS (power), AB8 VSS (power), AB9 VDD2 (power), AB10 VSS (power), AB11 DNU, AB12 DNU, B1 DNU, B3 VDDQ (power), B5 VDDQ (power), B8 VDDQ (power), B10 VDDQ (power), B12 DNU, C1 VSS (power), C5 VSS (power), C8 VSS (power), C12 VSS (power), D1 VDDQ (power), D2 VSS (power), D4 VSS (power), D5 VDDQ (power), D8 VDDQ (power), D9 VSS (power), D11 VSS (power), D12 VDDQ (power), E1 VSS (power), E5 VSS (power), E8 VSS (power), E12 VSS (power), F1 VDD1 (power), F3 VDDQ (power), F5 VDD2 (power), F8 VDD2 (power), F10 VDDQ (power), F12 VDD1 (power), G1 VSS (power), G3 VSS (power), G4 VDD1 (power), G5 VSS (power), G8 VSS (power), G9 VDD1 (power), G10 VSS (power), G11 NC, G12 VSS (power), H1 VDD2 (power), H3 NC, H5 VDD2 (power), H8 VDD2 (power), H12 VDD2 (power), J1 VSS (power), J3 VSS (power), J5 NC, J10 VSS (power), J12 VSS (power), K1 VDD2 (power), K2 VSS (power), K3 NC, K4 NC, K5 VSS (power), K8 VDD2 (power), K9 VSS (power), K10 VDD2 (power), K11 VSS (power), K12 VDD2 (power), N1 VDD2 (power), N2 VSS (power), N3 VDD2 (power), N4 VSS (power), N5 NC, N8 NC, N9 VSS (power), N10 VDD2 (power), N11 VSS (power), N12 VDD2 (power), P1 VSS (power), P3 VSS (power), P5 NC, P10 VSS (power), P12 VSS (power), R1 VDD2 (power), R3 NC, R5 VDD2 (power), R8 VDD2 (power), R12 VDD2 (power), T1 VSS (power), T3 VSS (power), T4 VDD1 (power), T5 VSS (power), T8 VSS (power), T9 VDD1 (power), T10 VSS (power), T12 VSS (power), U1 VDD1 (power), U3 VDDQ (power), U5 VDD2 (power), U8 VDD2 (power), U10 VDDQ (power), U12 VDD1 (power), V1 VSS (power), V5 VSS (power), V8 VSS (power), V12 VSS (power), W1 VDDQ (power), W2 VSS (power), W4 VSS (power), W5 VDDQ (power), W8 VDDQ (power), W9 VSS (power), W11 VSS (power), W12 VDDQ (power), Y1 VSS (power), Y5 VSS (power), Y8 VSS (power), Y12 VSS (power)
part B pins: A5 ZQ0, AA2 DQ0_B (io), AA4 DQ7_B (io), AA9 DQ15_B (io), AA11 DQ8_B (io), B2 DQ0_A (io), B4 DQ7_A (io), B9 DQ15_A (io), B11 DQ8_A (io), C2 DQ1_A (io), C3 DMI0_A (io), C4 DQ6_A (io), C9 DQ14_A (io), C10 DMI1_A (io), C11 DQ9_A (io), D3 DQS0_T_A (io), D10 DQS1_T_A (io), E2 DQ2_A (io), E3 DQS0_C_A (io), E4 DQ5_A (io), E9 DQ13_A (io), E10 DQS1_C_A (io), E11 DQ10_A (io), F2 DQ3_A (io), F4 DQ4_A (io), F9 DQ12_A (io), F11 DQ11_A (io), G2 ODT_CA_A (io), H2 CA0_A (in), H4 CS0_A (in), H9 CA2_A (in), H10 CA3_A (in), H11 CA4_A (in), J2 CA1_A (in), J4 CKE0_A (in), J8 CK_T_A (in), J9 CK_C_A (in), J11 CA5_A (in), P2 CA1_B (in), P4 CKE0_B (in), P8 CK_T_B (in), P9 CK_C_B (in), P11 CA5_B (in), R2 CA0_B (in), R4 CS0_B (in), R9 CA2_B (in), R10 CA3_B (in), R11 CA4_B (in), T2 ODT_CA_B (io), T11 ~{RESET} (in), U2 DQ3_B (io), U4 DQ4_B (io), U9 DQ12_B (io), U11 DQ11_B (io), V2 DQ2_B (io), V3 DQS0_C_B (io), V4 DQ5_B (io), V9 DQ13_B (io), V10 DQS1_C_B (io), V11 DQ10_B (io), W3 DQS0_T_B (io), W10 DQS1_T_B (io), Y2 DQ1_B (io), Y3 DMI0_B (io), Y4 DQ6_B (io), Y9 DQ14_B (io), Y10 DMI1_B (io), Y11 DQ9_B (io)

## MTFC32GBCAQTC-AIT
designator IC?
Integrated Circuit; Manufacturer_Name: Micron; Manufacturer_Part_Number: MTFC32GAZAQHD-WT; Datasheet Link: https://4donline.ihs.com/images/VipMasterIC/IC/MICT/MICT-S-A0013760855/MICT-S-A0013760855-1.pdf?hkey=52A5661711E402568146F3353EA87419; Height: 0.9mm; Mouser Part Number: 340-531307-TRAY; Mouser Price/Stock: https://www.mouser.co.uk/ProductDetail/Micron/MTFC32GAZAQHD-WT?qs=KUoIvG%2F9IlZhoMlKy7eeFw%3D%3D; Arrow Part Number: MTFC32GAZAQHD-WT; Arrow Price/Stock: https://www.arrow.com/en/products/mtfc32gazaqhd-wt/micron-technology?utm_currency=USD&region=nac
footprint BGA153C50P14X14_1150X1300X90
part A pins: A3 DAT0, A4 DAT1, A5 DAT2, A7 RFU, B2 DAT3, B3 DAT4, B4 DAT5, B5 DAT6, B6 DAT7, E5 RFU, E8 VSF1, E9 VSF2, E10 VSF3, F10 VSF4, G10 VSF5, H5 DS, K5 RST_N, K6 RFU, K7 RFU, K10 VSF6, M5 CMD, M6 CLK, P10 VSF7
part B pins: A1 NC, A2 NC, A8 NC, A9 NC, A10 NC, A11 NC, A12 NC, A13 NC, A14 NC, B1 NC, B7 NC, B8 NC, B9 NC, B10 NC, B11 NC, B12 NC, B13 NC, B14 NC, C1 NC, C3 NC, C5 NC, C7 NC, C8 NC, C9 NC, C10 NC, C11 NC, C12 NC, C13 NC, C14 NC, D1 NC, D2 NC, D3 NC, D4 NC, D12 NC, D13 NC, D14 NC, E1 NC, E2 NC, E3 NC, E12 NC, E13 NC, E14 NC, F1 NC, F2 NC, F3 NC, F12 NC, F13 NC, F14 NC, G1 NC, G2 NC, G3 NC, G12 NC, G13 NC, G14 NC, H1 NC, H2 NC, H3 NC, H12 NC, H13 NC, H14 NC, J1 NC, J2 NC, J3 NC, J12 NC, J13 NC, J14 NC, K1 NC, K2 NC, K3 NC, K12 NC, K13 NC, K14 NC, L1 NC, L2 NC, L3 NC, L12 NC, L13 NC, L14 NC, M1 NC, M2 NC, M3 NC, M7 NC, M8 NC, M9 NC, M10 NC, M11 NC, M12 NC, M13 NC, M14 NC, N1 NC, N3 NC, N6 NC, N7 NC, N8 NC, N9 NC, N10 NC, N11 NC, N12 NC, N13 NC, N14 NC, P1 NC, P2 NC, P7 NC, P8 NC, P9 NC, P11 NC, P12 NC, P13 NC, P14 NC, P15 NC
part C pins: A6 VSS, C2 VDDIM, C4 VSSQ, C6 VCCQ, E6 VCC, E7 VSS, F5 VCC, G5 VSS, H10 VSS, J5 VSS, J10 VCC, K8 VSS, K9 VCC, M4 VCCQ, N2 VSSQ, N4 VCCQ, N5 VSSQ, P3 VCCQ, P4 VSSQ, P5 VCCQ, P6 VSSQ

## OLED_I2C
designator J?, comment OLED-I2C-128px
footprint OLED-I2C
pins: 1 VCC, 2 GND, 3 SCL, 4 SDA

## PC817X3NSZ9F
designator Q?
Transistor; Manufacturer_Name: Sharp Microelectronics; Manufacturer_Part_Number: PC817X3NSZ9F; Datasheet Link: http://www.socle-tech.com/doc/IC%20Channel%20Product/Optoelectronic%20Components/Photocoupler/PC817X_NSZ9FSeries_SPEC.pdf; Height: 4.5mm; Mouser Part Number: 852-PC817X3NSZ9F; Mouser Price/Stock: https://www.mouser.co.uk/ProductDetail/Sharp-Microelectronics/PC817X3NSZ9F?qs=rrS6PyfT74dWYZr%252B0rlaOw%3D%3D
footprint DIP762W60P254L460H450Q4N
pins: 1, 2, 3, 4

## RaspberryPi-5_Header
designator J?
Connector; Manufacturer_Name: NELTRON; Manufacturer_Part_Number: 2214S-40SG-85; Height: 8.5mm
footprint 2214S40SG85_Bottom_RPI (Footprint not found)
pins: 1 5V, 2 3V3, 3 5V, 4 GPIO2 (SDA), 5 GND, 6 GPIO3 (SCL), 7 GPIO14 (TXD1), 8 GPIO4 (TXD3), 9 GPIO15 (RXD1), 10 GND, 11 GPIO18 (PCM_CLK), 12 GPIO17, 13 GND, 14 GPIO27, 15 GPIO23, 16 GPIO22, 17 GPIO24, 18 3V3, 19 GND, 20 GPIO10 (MOSI), 21 GPIO25, 22 GPIO9 (MISO/TXD4), 23 GPIO8 (CE0/RXD4), 24 GPIO11 (SCLK), 25 GPIO7 (CE1), 26 GND, 27 GPIO1 (EEP_SCL/RXD2), 28 GPIO0 (EEP_SDA/TXD2), 29 GND, 30 GPIO6, 31 GPIO12 (PWM0/TXD5), 32 GPIO5 (RXD3), 33 GND, 34 GPIO13 (PWM1/RXD5), 35 GPIO16, 36 GPIO19 (PCM_FS), 37 GPIO20 (PCM_DIN), 38 GPIO26, 39 GPIO21 (PCM_DOUT), 40 GND

## RM3100_MAGI2C
designator IC?
footprint QFN40P400X400X80_HS-29N (QFN, 28-Leads, Body 4.00x4.00mm, Pitch 0.40mm, Thermal Pad 2.50x2.50mm, IPC Medium Density)
pins: 1 MOSI/SDA, 2 RES, 3 SSN/SA0, 4 AVDD, 5 AVSS, 6 ZDRVP, 7 ZINP, 8 ZINN, 9 ZDRVN, 10 YDRVP, 11 YINP, 12 YINN, 13 YDRVN, 14 DVDD, 15 XDRVP, 16 XINP, 17 XINN, 18 XDRVN, 19 DVSS, 20 RES, 21 NC, 22 I2CEN, 23 DRDY, 24 NC, 25 REXT, 26 DVDD, 27 SCLK/SCL, 28 MISO/SA1, 29 THERMAL_PAD

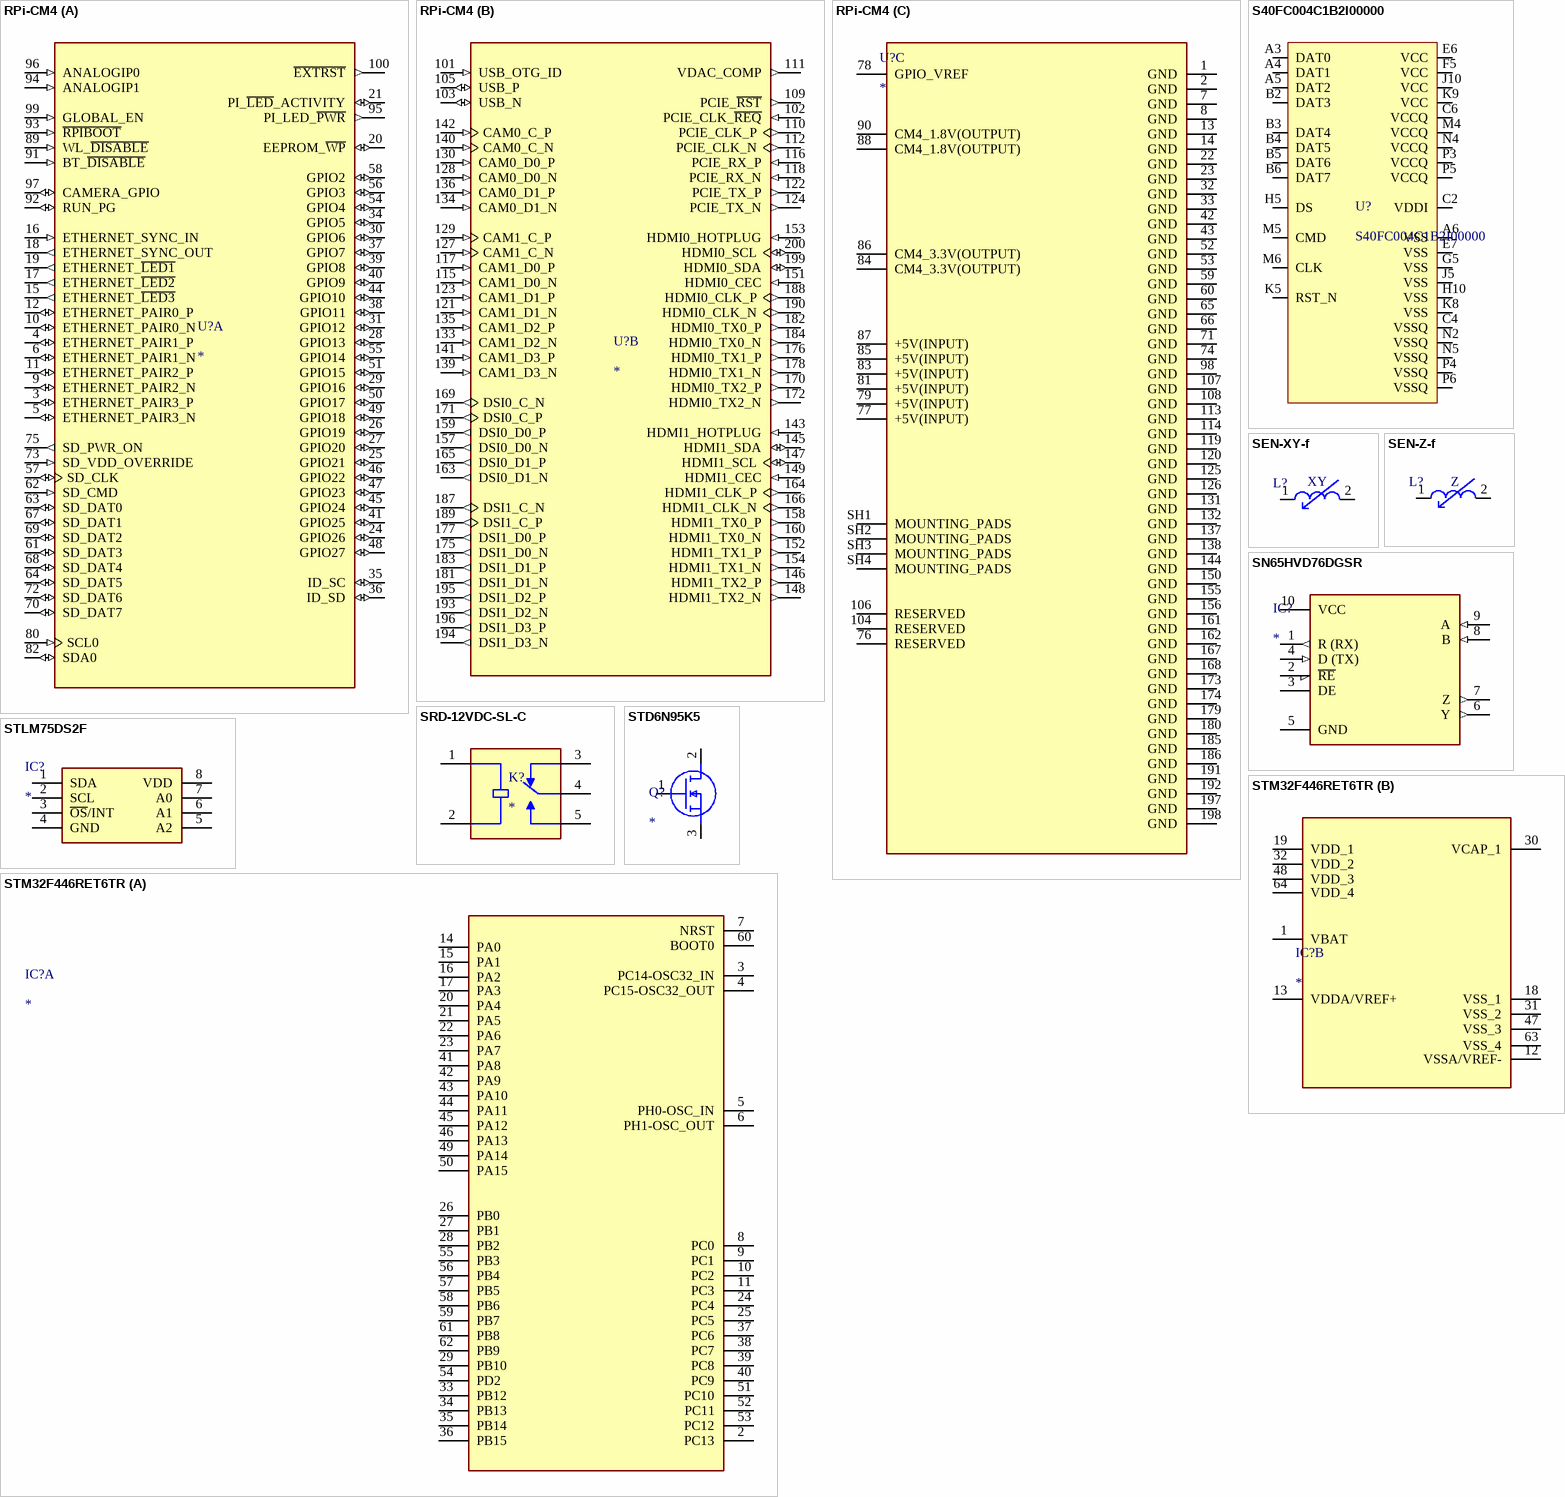
[diagram p4: symbols RPi-CM4 to STM32F446RET6TR]

## RPi-CM4
designator U?
The Raspberry Pi SOM CM4104016 Compute Module 4 Rev 5 single board computer features an ARM Cortex-A72 quad-core processor running at 1.5GHz, ensuring high performance for various embedded applications. It comes equipped with 4GB of RAM and 16GB of storage, providing ample memory for multitasking and processing tasks. Connectivity options include GbE Ethernet and USB 2.0, along with expansion sites for I2C, SPI, and UART, enhancing its versatility. Additionally, it offers 28 digital I/O lines and supports multiple video outputs such as CSI, DPI, DSI, and HDMI, making it ideal for multimedia applications.; MP: SC0673; SnapEDA_Link: https://www.snapeda.com/parts/SC0673/Raspberry+Pi/view-part/?ref=snap; Package: None; Value: *; MF: Raspberry Pi; Check_prices: https://www.snapeda.com/parts/SC0673/Raspberry+Pi/view-part/?ref=eda
footprint ComputeModule4
part A pins: 3 ETHERNET_PAIR3_P (io), 4 ETHERNET_PAIR1_P (io), 5 ETHERNET_PAIR3_N (io), 6 ETHERNET_PAIR1_N (io), 9 ETHERNET_PAIR2_N (io), 10 ETHERNET_PAIR0_N (io), 11 ETHERNET_PAIR2_P (io), 12 ETHERNET_PAIR0_P (io), 15 ETHERNET_~{LED3} (out), 16 ETHERNET_SYNC_IN (in), 17 ETHERNET_~{LED2} (out), 18 ETHERNET_SYNC_OUT (out), 19 ETHERNET_~{LED1} (out), 20 EEPROM_~{WP} (io), 21 PI_~{LED}_ACTIVITY (io), 24 GPIO26 (io), 25 GPIO21 (io), 26 GPIO19 (io), 27 GPIO20 (io), 28 GPIO13 (io), 29 GPIO16 (io), 30 GPIO6 (io), 31 GPIO12 (io), 34 GPIO5 (io), 35 ID_SC (io), 36 ID_SD (io), 37 GPIO7 (io), 38 GPIO11 (io), 39 GPIO8 (io), 40 GPIO9 (io), 41 GPIO25 (io), 44 GPIO10 (io), 45 GPIO24 (io), 46 GPIO22 (io), 47 GPIO23 (io), 48 GPIO27 (io), 49 GPIO18 (io), 50 GPIO17 (io), 51 GPIO15 (io), 54 GPIO4 (io), 55 GPIO14 (io), 56 GPIO3 (io), 57 SD_CLK (io), 58 GPIO2 (io), 61 SD_DAT3 (io), 62 SD_CMD (in), 63 SD_DAT0 (io), 64 SD_DAT5 (io), 67 SD_DAT1 (io), 68 SD_DAT4 (io), 69 SD_DAT2 (io), 70 SD_DAT7 (io), 72 SD_DAT6 (io), 73 SD_VDD_OVERRIDE (in), 75 SD_PWR_ON (out), 80 SCL0 (in), 82 SDA0 (io), 89 WL_~{DISABLE} (in), 91 BT_~{DISABLE} (in), 92 RUN_PG (io), 93 ~{RPIBOOT} (in), 94 ANALOGIP1 (in), 95 PI_LED_~{PWR} (out), 96 ANALOGIP0 (in), 97 CAMERA_GPIO (io), 99 GLOBAL_EN (in), 100 ~{EXTRST} (out)
part B pins: 101 USB_OTG_ID (in), 102 PCIE_CLK_~{REQ} (in), 103 USB_N (io), 105 USB_P (io), 109 PCIE_~{RST} (out), 110 PCIE_CLK_P (out), 111 VDAC_COMP (out), 112 PCIE_CLK_N (out), 115 CAM1_D0_N (in), 116 PCIE_RX_P (in), 117 CAM1_D0_P (in), 118 PCIE_RX_N (in), 121 CAM1_D1_N (in), 122 PCIE_TX_P (out), 123 CAM1_D1_P (in), 124 PCIE_TX_N (out), 127 CAM1_C_N (in), 128 CAM0_D0_N (in), 129 CAM1_C_P (in), 130 CAM0_D0_P (in), 133 CAM1_D2_N (in), 134 CAM0_D1_N (in), 135 CAM1_D2_P (in), 136 CAM0_D1_P (in), 139 CAM1_D3_N (in), 140 CAM0_C_N (in), 141 CAM1_D3_P (in), 142 CAM0_C_P (in), 143 HDMI1_HOTPLUG (in), 145 HDMI1_SDA (io), 146 HDMI1_TX2_P (out), 147 HDMI1_SCL (io), 148 HDMI1_TX2_N (out), 149 HDMI1_CEC (in), 151 HDMI0_CEC (in), 152 HDMI1_TX1_P (out), 153 HDMI0_HOTPLUG (in), 154 HDMI1_TX1_N (out), 157 DSI0_D0_N (out), 158 HDMI1_TX0_P (out), 159 DSI0_D0_P (out), 160 HDMI1_TX0_N (out), 163 DSI0_D1_N (out), 164 HDMI1_CLK_P (out), 165 DSI0_D1_P (out), 166 HDMI1_CLK_N (out), 169 DSI0_C_N (out), 170 HDMI0_TX2_P (out), 171 DSI0_C_P (out), 172 HDMI0_TX2_N (out), 175 DSI1_D0_N (out), 176 HDMI0_TX1_P (out), 177 DSI1_D0_P (out), 178 HDMI0_TX1_N (out), 181 DSI1_D1_N (out), 182 HDMI0_TX0_P (out), 183 DSI1_D1_P (out), 184 HDMI0_TX0_N (out), 187 DSI1_C_N (out), 188 HDMI0_CLK_P (out), 189 DSI1_C_P (out), 190 HDMI0_CLK_N (out), 193 DSI1_D2_N (out), 194 DSI1_D3_N (out), 195 DSI1_D2_P (out), 196 DSI1_D3_P (out), 199 HDMI0_SDA (io), 200 HDMI0_SCL (io)
part C pins: 1 GND (power), 2 GND (power), 7 GND (power), 8 GND (power), 13 GND (power), 14 GND (power), 22 GND (power), 23 GND (power), 32 GND (power), 33 GND (power), 42 GND (power), 43 GND (power), 52 GND (power), 53 GND (power), 59 GND (power), 60 GND (power), 65 GND (power), 66 GND (power), 71 GND (power), 74 GND (power), 76 RESERVED, 77 +5V(INPUT) (power), 78 GPIO_VREF (power), 79 +5V(INPUT) (power), 81 +5V(INPUT) (power), 83 +5V(INPUT) (power), 84 CM4_3.3V(OUTPUT) (power), 85 +5V(INPUT) (power), 86 CM4_3.3V(OUTPUT) (power), 87 +5V(INPUT) (power), 88 CM4_1.8V(OUTPUT) (power), 90 CM4_1.8V(OUTPUT) (power), 98 GND (power), 104 RESERVED, 106 RESERVED, 107 GND (power), 108 GND (power), 113 GND (power), 114 GND (power), 119 GND (power), 120 GND (power), 125 GND (power), 126 GND (power), 131 GND (power), 132 GND (power), 137 GND (power), 138 GND (power), 144 GND (power), 150 GND (power), 155 GND (power), 156 GND (power), 161 GND (power), 162 GND (power), 167 GND (power), 168 GND (power), 173 GND (power), 174 GND (power), 179 GND (power), 180 GND (power), 185 GND (power), 186 GND (power), 191 GND (power), 192 GND (power), 197 GND (power), 198 GND (power), SH1 MOUNTING_PADS, SH2 MOUNTING_PADS, SH3 MOUNTING_PADS, SH4 MOUNTING_PADS

## S40FC004C1B2I00000
designator U?
eMMC MLC Memory 4GB 3V3; Manufacturer: SkyHigh Memory; Manufacturer Part Number: S40FC004C1B2I00000
footprint VFBGA153-9.0x7.5x0.8 (Footprint not found)
pins: A3 DAT0, A4 DAT1, A5 DAT2, A6 VSS, B2 DAT3, B3 DAT4, B4 DAT5, B5 DAT6, B6 DAT7, C2 VDDI, C4 VSSQ, C6 VCCQ, E6 VCC, E7 VSS, F5 VCC, G5 VSS, H5 DS, H10 VSS, J5 VSS, J10 VCC, K5 RST_N, K8 VSS, K9 VCC, M4 VCCQ, M5 CMD, M6 CLK, N2 VSSQ, N4 VCCQ, N5 VSSQ, P3 VCCQ, P4 VSSQ, P5 VCCQ, P6 VSSQ

## SEN-XY-f
designator L?
footprint Sen-XY-f
pins: 1 K, 2 A
text: XY

## SEN-Z-f
designator L?
footprint Sen-Z-f
pins: 1 K, 2 A
text: Z

## SN65HVD76DGSR
designator IC?
RS485 Full Duplex Transciever; Manufacturer_Name: Texas Instruments; Manufacturer_Part_Number: SN65HVD76DGSR; Datasheet Link: http://www.ti.com/lit/gpn/sn65hvd76; Height: 1.1mm; Mouser Part Number: 595-SN65HVD76DGSR; Mouser Price/Stock: https://www.mouser.co.uk/ProductDetail/Texas-Instruments/SN65HVD76DGSR?qs=7z%252BmIopC6%2FI%252B8LLIzcebYw%3D%3D; Arrow Part Number: SN65HVD76DGSR; Arrow Price/Stock: https://www.arrow.com/en/products/sn65hvd76dgsr/texas-instruments?region=nac
footprint SOP50P490X110-10N
pins: 1 R (RX) (out), 2 ~{RE}, 3 DE, 4 D (TX) (in), 5 GND, 6 Y (out), 7 Z (out), 8 B (in), 9 A (in), 10 VCC

## SRD-12VDC-SL-C
designator K?
General Purpose Non Latching 12VDC SPDT Through Hole Relays RoHS; MF: Songle Relay; MP: SRD-12VDC-SL-C; SnapEDA_Link: https://www.snapeda.com/parts/SRD-12VDC-SL-C/Songle+Relay/view-part/?ref=snap; Package: NON STANDARD-5 Songle Relay; Value: *; Check_prices: https://www.snapeda.com/parts/SRD-12VDC-SL-C/Songle+Relay/view-part/?ref=eda
footprint RELAY_SRD-12VDC-SL-C
pins: 1 COIL1, 2 COIL2, 3 NC, 4 COM, 5 NO

## STD6N95K5
designator Q?
MOSFET (N-Channel); Manufacturer_Name: STMicroelectronics; Manufacturer_Part_Number: STD6N95K5; Datasheet Link: https://www.mouser.com/datasheet/2/389/std6n95k5-955603.pdf; Height: 2mm; Mouser Part Number: 511-STD6N95K5; Mouser Price/Stock: https://www.mouser.co.uk/ProductDetail/STMicroelectronics/STD6N95K5?qs=mxm%2FV7p14IOvK69mK8m2Bw%3D%3D; Arrow Part Number: STD6N95K5; Arrow Price/Stock: https://www.arrow.com/en/products/std6n95k5/stmicroelectronics
footprint STD13N60DM2
pins: 1 G, 2 D, 3 S

## STLM75DS2F
designator IC?
Integrated Circuit; Manufacturer_Name: STMicroelectronics; Manufacturer_Part_Number: STLM75DS2F; Datasheet Link: http://www.st.com/st-web-ui/static/active/en/resource/technical/document/datasheet/CD00153511.pdf; Height: 1.1mm; Mouser Part Number: 511-STLM75DS2F; Mouser Price/Stock: https://www.mouser.co.uk/ProductDetail/STMicroelectronics/STLM75DS2F?qs=dprsmcfV5jP0HiOcErRJmQ%3D%3D; Arrow Part Number: STLM75DS2F; Arrow Price/Stock: https://www.arrow.com/en/products/stlm75ds2f/stmicroelectronics?region=europe
footprint SOP65P490X110-8N
pins: 1 SDA, 2 SCL, 3 ~{OS}/INT, 4 GND, 5 A2, 6 A1, 7 A0, 8 VDD

## STM32F446RET6TR
designator IC?
Integrated Circuit; Manufacturer_Name: STMicroelectronics; Manufacturer_Part_Number: STM32F446RET6TR; Datasheet Link: https://www.arrow.com/en/products/stm32f446ret6tr/stmicroelectronics; Height: 1.6mm; Mouser Part Number: 511-STM32F446RET6TR; Mouser Price/Stock: https://www.mouser.co.uk/ProductDetail/STMicroelectronics/STM32F446RET6TR?qs=xZ%2FP%252Ba9zWqYaBJrnMqQZtg%3D%3D; Arrow Part Number: STM32F446RET6TR; Arrow Price/Stock: https://www.arrow.com/en/products/stm32f446ret6tr/stmicroelectronics?utm_currency=USD&region=nac
footprint QFP50P1200X1200X160-64N
part A pins: 2 PC13, 3 PC14-OSC32_IN, 4 PC15-OSC32_OUT, 5 PH0-OSC_IN, 6 PH1-OSC_OUT, 7 NRST, 8 PC0, 9 PC1, 10 PC2, 11 PC3, 14 PA0, 15 PA1, 16 PA2, 17 PA3, 20 PA4, 21 PA5, 22 PA6, 23 PA7, 24 PC4, 25 PC5, 26 PB0, 27 PB1, 28 PB2, 29 PB10, 33 PB12, 34 PB13, 35 PB14, 36 PB15, 37 PC6, 38 PC7, 39 PC8, 40 PC9, 41 PA8, 42 PA9, 43 PA10, 44 PA11, 45 PA12, 46 PA13, 49 PA14, 50 PA15, 51 PC10, 52 PC11, 53 PC12, 54 PD2, 55 PB3, 56 PB4, 57 PB5, 58 PB6, 59 PB7, 60 BOOT0, 61 PB8, 62 PB9
part B pins: 1 VBAT, 12 VSSA/VREF-, 13 VDDA/VREF+, 18 VSS_1, 19 VDD_1, 30 VCAP_1, 31 VSS_2, 32 VDD_2, 47 VSS_3, 48 VDD_3, 63 VSS_4, 64 VDD_4

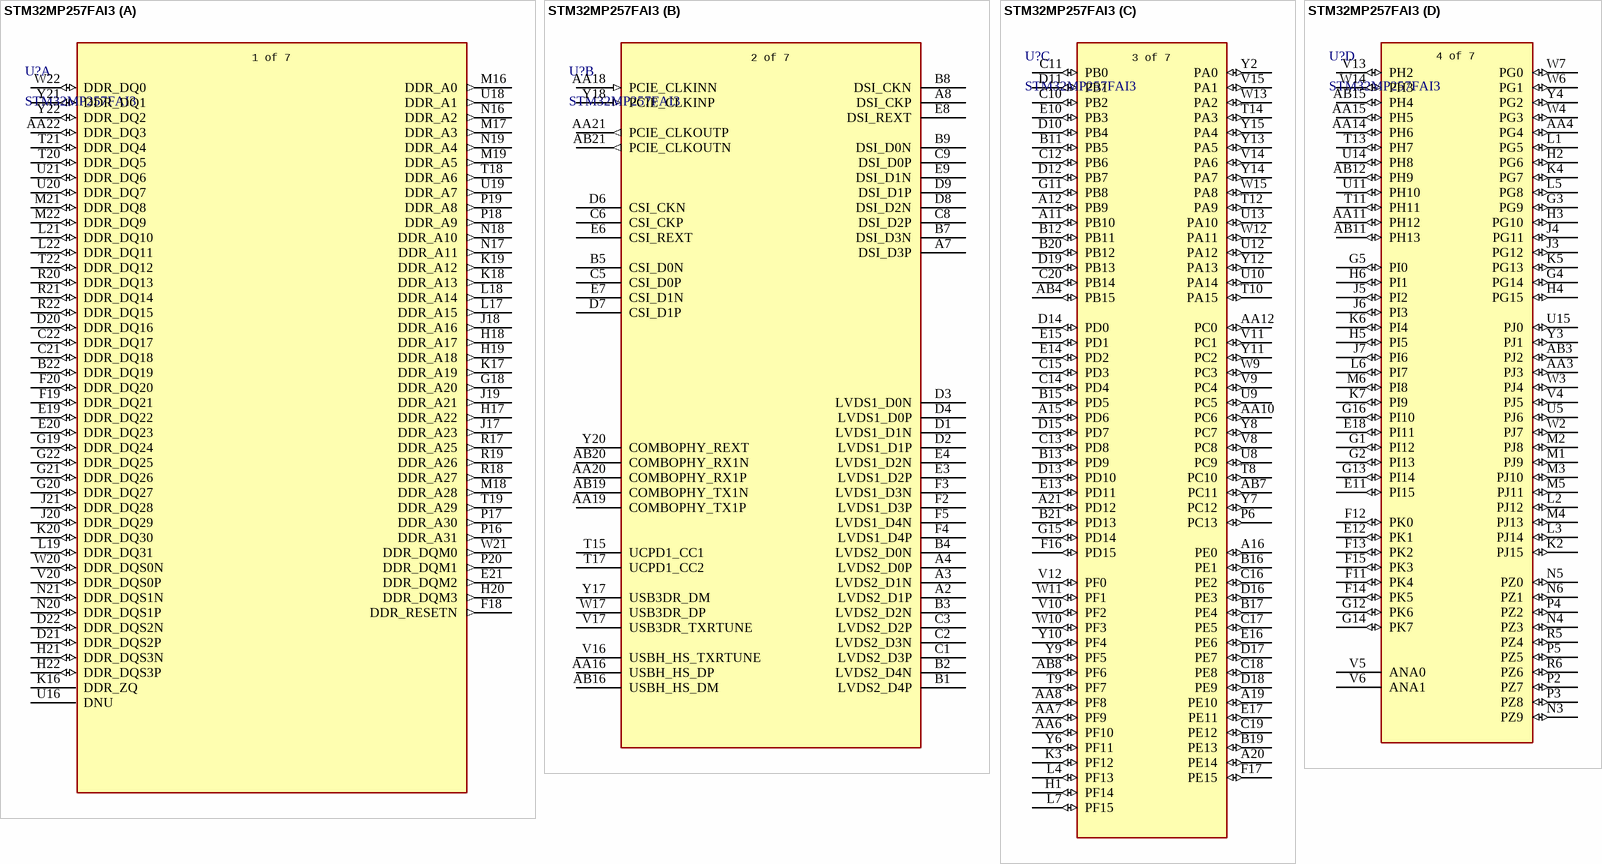
[diagram p5: symbol STM32MP257FAI3]

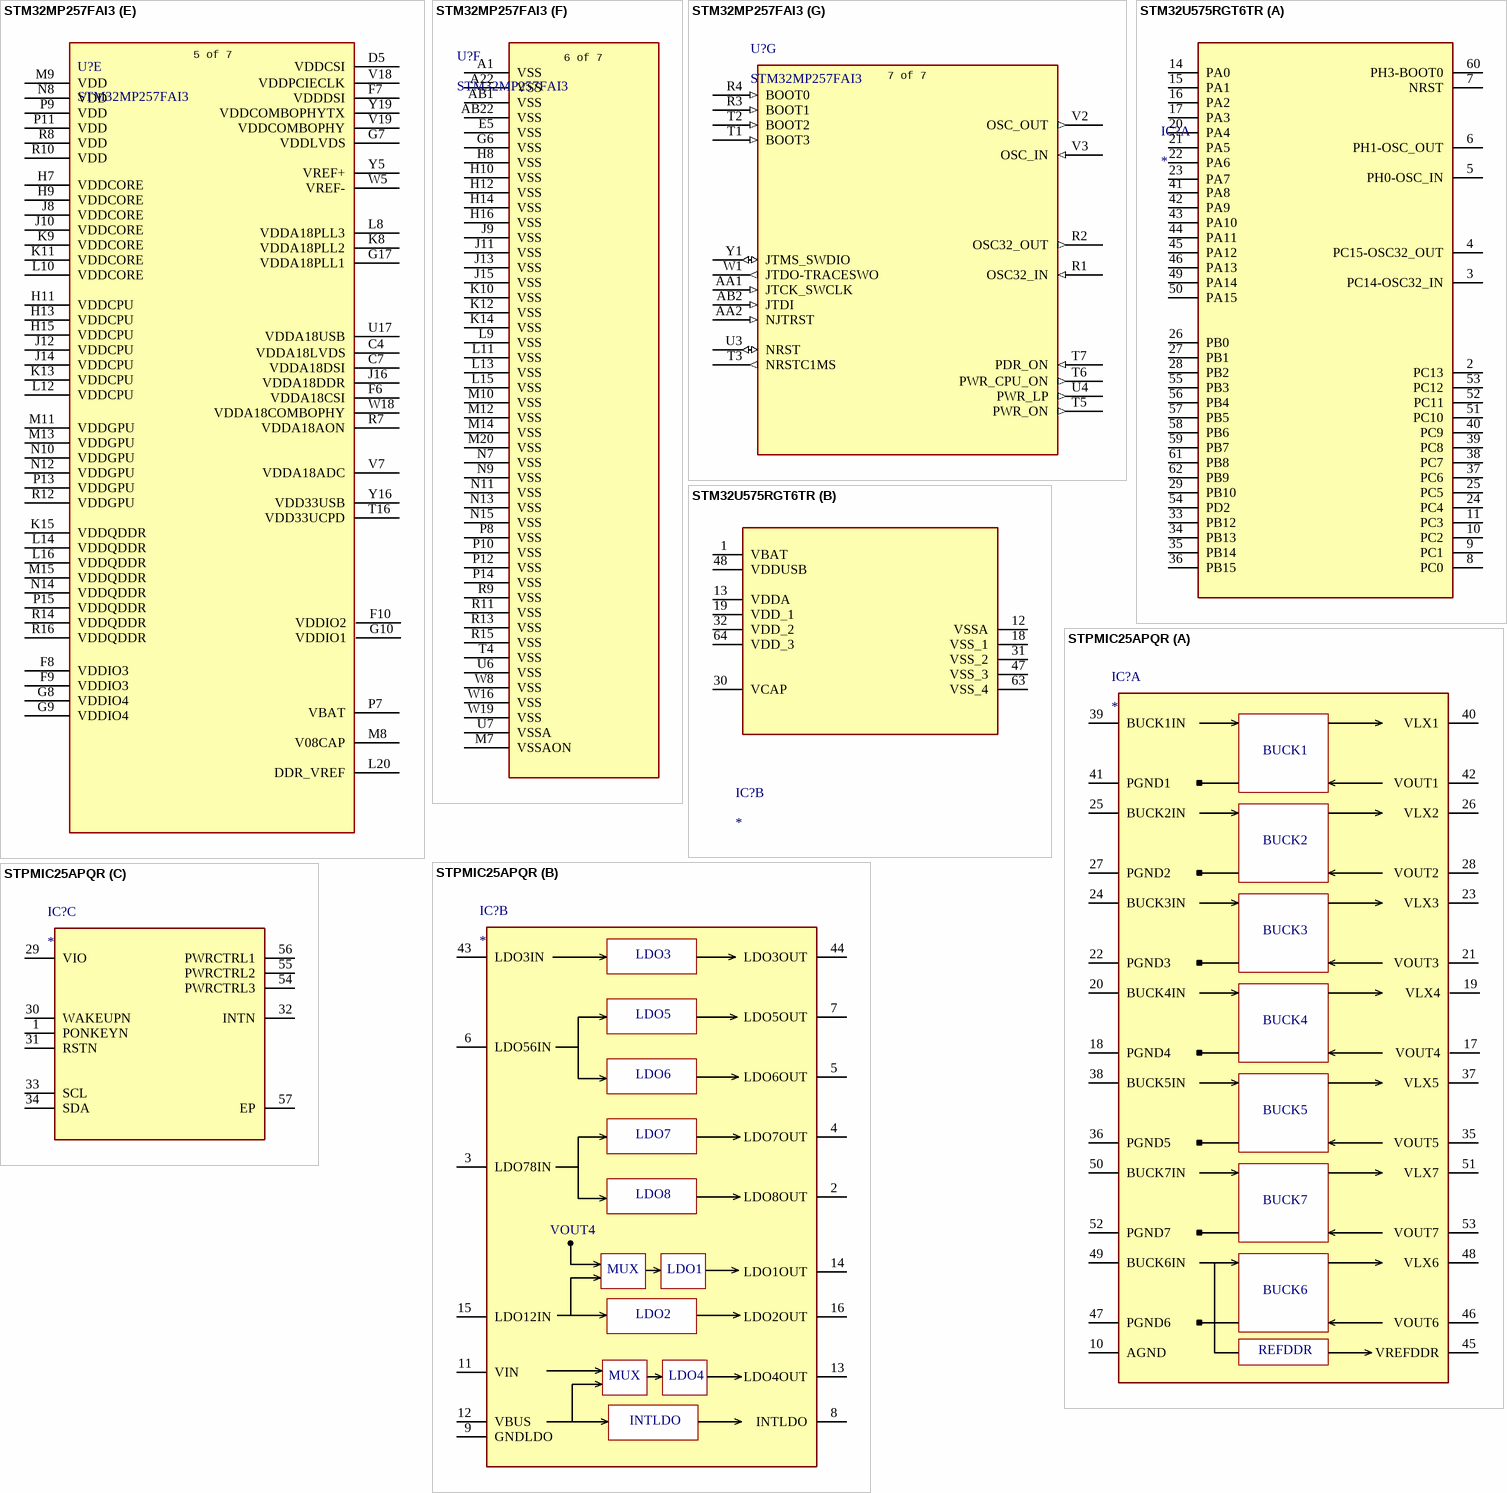
[diagram p6: symbols STM32MP257FAI3 to STPMIC25APQR]

## STM32MP257FAI3
designator U?
MPU with Dual Arm Cortex-A35 @1.5GHz, Cortex-M33 @400MHz, 3xEthernet (2+1 switch), 3xFD-CAN, LVDS/DSI, H.264, 3D GPU, AI/NN, Secure Boot, Cryptography, DRAM enc/dec, PKA; Manufacturer_Name: STMicroelectronics; Copyright: Copyright (C) 2025 Ultra Librarian. All rights reserved.; Manufacturer_Part_Number: STM32MP257FAI3; RefDes: RefDes; Type: Type
footprint TFBGA436_STM
part A pins: AA22 DDR_DQ3 (io), B22 DDR_DQ19 (io), C21 DDR_DQ18 (io), C22 DDR_DQ17 (io), D20 DDR_DQ16 (io), D21 DDR_DQS2P (io), D22 DDR_DQS2N (io), E19 DDR_DQ22 (io), E20 DDR_DQ23 (io), E21 DDR_DQM2 (out), F18 DDR_RESETN (out), F19 DDR_DQ21 (io), F20 DDR_DQ20 (io), G18 DDR_A20 (out), G19 DDR_DQ24 (io), G20 DDR_DQ27 (io), G21 DDR_DQ26 (io), G22 DDR_DQ25 (io), H17 DDR_A22 (out), H18 DDR_A17 (out), H19 DDR_A18 (out), H20 DDR_DQM3 (out), H21 DDR_DQS3N (io), H22 DDR_DQS3P (io), J17 DDR_A23 (out), J18 DDR_A16 (out), J19 DDR_A21 (out), J20 DDR_DQ29 (io), J21 DDR_DQ28 (io), K16 DDR_ZQ, K17 DDR_A19 (out), K18 DDR_A13 (out), K19 DDR_A12 (out), K20 DDR_DQ30 (io), L17 DDR_A15 (out), L18 DDR_A14 (out), L19 DDR_DQ31 (io), L21 DDR_DQ10 (io), L22 DDR_DQ11 (io), M16 DDR_A0 (out), M17 DDR_A3 (out), M18 DDR_A28 (out), M19 DDR_A5 (out), M21 DDR_DQ8 (io), M22 DDR_DQ9 (io), N16 DDR_A2 (out), N17 DDR_A11 (out), N18 DDR_A10 (out), N19 DDR_A4 (out), N20 DDR_DQS1P (io), N21 DDR_DQS1N (io), P16 DDR_A31 (out), P17 DDR_A30 (out), P18 DDR_A9 (out), P19 DDR_A8 (out), P20 DDR_DQM1 (out), R17 DDR_A25 (out), R18 DDR_A27 (out), R19 DDR_A26 (out), R20 DDR_DQ13 (io), R21 DDR_DQ14 (io), R22 DDR_DQ15 (io), T18 DDR_A6 (out), T19 DDR_A29 (out), T20 DDR_DQ5 (io), T21 DDR_DQ4 (io), T22 DDR_DQ12 (io), U16 DNU, U18 DDR_A1 (out), U19 DDR_A7 (out), U20 DDR_DQ7 (io), U21 DDR_DQ6 (io), V20 DDR_DQS0P (io), W20 DDR_DQS0N (io), W21 DDR_DQM0 (out), W22 DDR_DQ0 (io), Y21 DDR_DQ1 (io), Y22 DDR_DQ2 (io)
part B pins: A2 LVDS2_D1P, A3 LVDS2_D1N, A4 LVDS2_D0P, A7 DSI_D3P, A8 DSI_CKP, AA16 USBH_HS_DP, AA18 PCIE_CLKINN (in), AA19 COMBOPHY_TX1P, AA20 COMBOPHY_RX1P, AA21 PCIE_CLKOUTP (out), AB16 USBH_HS_DM, AB19 COMBOPHY_TX1N, AB20 COMBOPHY_RX1N, AB21 PCIE_CLKOUTN (out), B1 LVDS2_D4P, B2 LVDS2_D4N, B3 LVDS2_D2N, B4 LVDS2_D0N, B5 CSI_D0N, B7 DSI_D3N, B8 DSI_CKN, B9 DSI_D0N, C1 LVDS2_D3P, C2 LVDS2_D3N, C3 LVDS2_D2P, C5 CSI_D0P, C6 CSI_CKP, C8 DSI_D2P, C9 DSI_D0P, D1 LVDS1_D1N, D2 LVDS1_D1P, D3 LVDS1_D0N, D4 LVDS1_D0P, D6 CSI_CKN, D7 CSI_D1P, D8 DSI_D2N, D9 DSI_D1P, E3 LVDS1_D2P, E4 LVDS1_D2N, E6 CSI_REXT, E7 CSI_D1N, E8 DSI_REXT, E9 DSI_D1N, F2 LVDS1_D3P, F3 LVDS1_D3N, F4 LVDS1_D4P, F5 LVDS1_D4N, T15 UCPD1_CC1, T17 UCPD1_CC2, V16 USBH_HS_TXRTUNE, V17 USB3DR_TXRTUNE, W17 USB3DR_DP, Y17 USB3DR_DM, Y18 PCIE_CLKINP (in), Y20 COMBOPHY_REXT
part C pins: A11 PB10 (io), A12 PB9 (io), A15 PD6 (io), A16 PE0 (io), A19 PE10 (io), A20 PE14 (io), A21 PD12 (io), AA6 PF10 (io), AA7 PF9 (io), AA8 PF8 (io), AA10 PC6 (io), AA12 PC0 (io), AB4 PB15 (io), AB7 PC11 (io), AB8 PF6 (io), B11 PB5 (io), B12 PB11 (io), B13 PD9 (io), B15 PD5 (io), B16 PE1 (io), B17 PE4 (io), B19 PE13 (io), B20 PB12 (io), B21 PD13 (io), C10 PB2 (io), C11 PB0 (io), C12 PB6 (io), C13 PD8 (io), C14 PD4 (io), C15 PD3 (io), C16 PE2 (io), C17 PE5 (io), C18 PE8 (io), C19 PE12 (io), C20 PB14 (io), D10 PB4 (io), D11 PB1 (io), D12 PB7 (io), D13 PD10 (io), D14 PD0 (io), D15 PD7 (io), D16 PE3 (io), D17 PE7 (io), D18 PE9 (io), D19 PB13 (io), E10 PB3 (io), E13 PD11 (io), E14 PD2 (io), E15 PD1 (io), E16 PE6 (io), E17 PE11 (io), F16 PD15 (io), F17 PE15 (io), G11 PB8 (io), G15 PD14 (io), H1 PF14 (io), K3 PF12 (io), L4 PF13 (io), L7 PF15 (io), P6 PC13 (io), T8 PC10 (io), T9 PF7 (io), T10 PA15 (io), T12 PA9 (io), T14 PA3 (io), U8 PC9 (io), U9 PC5 (io), U10 PA14 (io), U12 PA12 (io), U13 PA10 (io), V8 PC8 (io), V9 PC4 (io), V10 PF2 (io), V11 PC1 (io), V12 PF0 (io), V14 PA6 (io), V15 PA1 (io), W9 PC3 (io), W10 PF3 (io), W11 PF1 (io), W12 PA11 (io), W13 PA2 (io), W15 PA8 (io), Y2 PA0 (io), Y6 PF11 (io), Y7 PC12 (io), Y8 PC7 (io), Y9 PF5 (io), Y10 PF4 (io), Y11 PC2 (io), Y12 PA13 (io), Y13 PA5 (io), Y14 PA7 (io), Y15 PA4 (io)
part D pins: AA3 PJ3 (io), AA4 PG4 (io), AA11 PH12 (io), AA14 PH6 (io), AA15 PH5 (io), AB3 PJ2 (io), AB11 PH13 (io), AB12 PH9 (io), AB15 PH4 (io), E11 PI15 (io), E12 PK1 (io), E18 PI11 (io), F11 PK4 (io), F12 PK0 (io), F13 PK2 (io), F14 PK5 (io), F15 PK3 (io), G1 PI12 (io), G2 PI13 (io), G3 PG9 (io), G4 PG14 (io), G5 PI0 (io), G12 PK6 (io), G13 PI14 (io), G14 PK7 (io), G16 PI10 (io), H2 PG6 (io), H3 PG10 (io), H4 PG15 (io), H5 PI5 (io), H6 PI1 (io), J3 PG12 (io), J4 PG11 (io), J5 PI2 (io), J6 PI3 (io), J7 PI6 (io), K2 PJ15 (io), K4 PG7 (io), K5 PG13 (io), K6 PI4 (io), K7 PI9 (io), L1 PG5 (io), L2 PJ12 (io), L3 PJ14 (io), L5 PG8 (io), L6 PI7 (io), M1 PJ9 (io), M2 PJ8 (io), M3 PJ10 (io), M4 PJ13 (io), M5 PJ11 (io), M6 PI8 (io), N3 PZ9 (io), N4 PZ3 (io), N5 PZ0 (io), N6 PZ1 (io), P2 PZ7 (io), P3 PZ8 (io), P4 PZ2 (io), P5 PZ5 (io), R5 PZ4 (io), R6 PZ6 (io), T11 PH11 (io), T13 PH7 (io), U5 PJ6 (io), U11 PH10 (io), U14 PH8 (io), U15 PJ0 (io), V4 PJ5 (io), V5 ANA0, V6 ANA1, V13 PH2 (io), W2 PJ7 (io), W3 PJ4 (io), W4 PG3 (io), W6 PG1 (io), W7 PG0 (io), W14 PH3 (io), Y3 PJ1 (io), Y4 PG2 (io)
part E pins: C4 VDDA18LVDS (power), C7 VDDA18DSI (power), D5 VDDCSI (power), F6 VDDA18CSI (power), F7 VDDDSI (power), F8 VDDIO3 (power), F9 VDDIO3 (power), F10 VDDIO2 (power), G7 VDDLVDS (power), G8 VDDIO4 (power), G9 VDDIO4 (power), G10 VDDIO1 (power), G17 VDDA18PLL1 (power), H7 VDDCORE (power), H9 VDDCORE (power), H11 VDDCPU (power), H13 VDDCPU (power), H15 VDDCPU (power), J8 VDDCORE (power), J10 VDDCORE (power), J12 VDDCPU (power), J14 VDDCPU (power), J16 VDDA18DDR (power), K8 VDDA18PLL2 (power), K9 VDDCORE (power), K11 VDDCORE (power), K13 VDDCPU (power), K15 VDDQDDR (power), L8 VDDA18PLL3 (power), L10 VDDCORE (power), L12 VDDCPU (power), L14 VDDQDDR (power), L16 VDDQDDR (power), L20 DDR_VREF (power), M8 V08CAP (power), M9 VDD (power), M11 VDDGPU (power), M13 VDDGPU (power), M15 VDDQDDR (power), N8 VDD (power), N10 VDDGPU (power), N12 VDDGPU (power), N14 VDDQDDR (power), P7 VBAT (power), P9 VDD (power), P11 VDD (power), P13 VDDGPU (power), P15 VDDQDDR (power), R7 VDDA18AON (power), R8 VDD (power), R10 VDD (power), R12 VDDGPU, R14 VDDQDDR (power), R16 VDDQDDR (power), T16 VDD33UCPD (power), U17 VDDA18USB (power), V7 VDDA18ADC (power), V18 VDDPCIECLK, V19 VDDCOMBOPHY (power), W5 VREF- (power), W18 VDDA18COMBOPHY (power), Y5 VREF+ (power), Y16 VDD33USB (power), Y19 VDDCOMBOPHYTX (power)
part F pins: A1 VSS (power), A22 VSS (power), AB1 VSS (power), AB22 VSS (power), E5 VSS (power), G6 VSS (power), H8 VSS (power), H10 VSS (power), H12 VSS (power), H14 VSS (power), H16 VSS (power), J9 VSS (power), J11 VSS (power), J13 VSS (power), J15 VSS (power), K10 VSS (power), K12 VSS (power), K14 VSS (power), L9 VSS (power), L11 VSS (power), L13 VSS (power), L15 VSS (power), M7 VSSAON (power), M10 VSS (power), M12 VSS (power), M14 VSS (power), M20 VSS (power), N7 VSS (power), N9 VSS (power), N11 VSS (power), N13 VSS (power), N15 VSS (power), P8 VSS (power), P10 VSS (power), P12 VSS (power), P14 VSS (power), R9 VSS (power), R11 VSS (power), R13 VSS (power), R15 VSS (power), T4 VSS (power), U6 VSS (power), U7 VSSA (power), W8 VSS (power), W16 VSS (power), W19 VSS (power)
part G pins: AA1 JTCK_SWCLK (in), AA2 NJTRST (in), AB2 JTDI (in), R1 OSC32_IN (in), R2 OSC32_OUT (out), R3 BOOT1 (in), R4 BOOT0 (in), T1 BOOT3 (in), T2 BOOT2 (in), T3 NRSTC1MS (out), T5 PWR_ON (out), T6 PWR_CPU_ON (out), T7 PDR_ON (in), U3 NRST (io), U4 PWR_LP (out), V2 OSC_OUT (out), V3 OSC_IN (in), W1 JTDO-TRACESWO (out), Y1 JTMS_SWDIO (io)
part A text: 1 of 7
part B text: 2 of 7
part C text: 3 of 7
part D text: 4 of 7
part E text: 5 of 7
part F text: 6 of 7
part G text: 7 of 7

## STM32U575RGT6TR
designator IC?
Integrated Circuit; Manufacturer_Name: STMicroelectronics; Manufacturer_Part_Number: STM32U575RGT6TR; Datasheet Link: https://www.st.com/resource/en/datasheet/stm32u575ag.pdf; Height: 1.6mm; Mouser Part Number: 511-STM32U575RGT6TR; Mouser Price/Stock: https://www.mouser.co.uk/ProductDetail/STMicroelectronics/STM32U575RGT6TR?qs=T%252BzbugeAwjjwoz%252BinJLUwQ%3D%3D; Arrow Part Number: STM32U575RGT6TR; Arrow Price/Stock: https://www.arrow.com/en/products/stm32u575rgt6tr/stmicroelectronics?utm_currency=USD&region=nac
footprint QFP50P1200X1200X160-64N
part A pins: 2 PC13, 3 PC14-OSC32_IN, 4 PC15-OSC32_OUT, 5 PH0-OSC_IN, 6 PH1-OSC_OUT, 7 NRST, 8 PC0, 9 PC1, 10 PC2, 11 PC3, 14 PA0, 15 PA1, 16 PA2, 17 PA3, 20 PA4, 21 PA5, 22 PA6, 23 PA7, 24 PC4, 25 PC5, 26 PB0, 27 PB1, 28 PB2, 29 PB10, 33 PB12, 34 PB13, 35 PB14, 36 PB15, 37 PC6, 38 PC7, 39 PC8, 40 PC9, 41 PA8, 42 PA9, 43 PA10, 44 PA11, 45 PA12, 46 PA13, 49 PA14, 50 PA15, 51 PC10, 52 PC11, 53 PC12, 54 PD2, 55 PB3, 56 PB4, 57 PB5, 58 PB6, 59 PB7, 60 PH3-BOOT0, 61 PB8, 62 PB9
part B pins: 1 VBAT, 12 VSSA, 13 VDDA, 18 VSS_1, 19 VDD_1, 30 VCAP, 31 VSS_2, 32 VDD_2, 47 VSS_3, 48 VDDUSB, 63 VSS_4, 64 VDD_3

## STPMIC25APQR
designator IC?
Integrated Circuit; Manufacturer_Name: STMicroelectronics; Manufacturer_Part_Number: STPMIC25APQR; Datasheet Link: https://www.st.com/resource/en/datasheet/stpmic25.pdf; Height: 0.9mm; Mouser Part Number: 511-STPMIC25APQR; Mouser Price/Stock: https://www.mouser.co.uk/ProductDetail/STMicroelectronics/STPMIC25APQR?qs=jRuttqqUwMR8b%2FyHW8MhFQ%3D%3D; Arrow Part Number: STPMIC25APQR; Arrow Price/Stock: https://www.arrow.com/en/products/stpmic25apqr/stmicroelectronics?utm_currency=USD&region=europe
footprint QFN40P650X650X90-57N-D
part A pins: 10 AGND, 17 VOUT4, 18 PGND4, 19 VLX4, 20 BUCK4IN, 21 VOUT3, 22 PGND3, 23 VLX3, 24 BUCK3IN, 25 BUCK2IN, 26 VLX2, 27 PGND2, 28 VOUT2, 35 VOUT5, 36 PGND5, 37 VLX5, 38 BUCK5IN, 39 BUCK1IN, 40 VLX1, 41 PGND1, 42 VOUT1, 45 VREFDDR, 46 VOUT6, 47 PGND6, 48 VLX6, 49 BUCK6IN, 50 BUCK7IN, 51 VLX7, 52 PGND7, 53 VOUT7
part B pins: 2 LDO8OUT, 3 LDO78IN, 4 LDO7OUT, 5 LDO6OUT, 6 LDO56IN, 7 LDO5OUT, 8 INTLDO, 9 GNDLDO, 11 VIN, 12 VBUS, 13 LDO4OUT, 14 LDO1OUT, 15 LDO12IN, 16 LDO2OUT, 43 LDO3IN, 44 LDO3OUT
part C pins: 1 PONKEYN, 29 VIO, 30 WAKEUPN, 31 RSTN, 32 INTN, 33 SCL, 34 SDA, 54 PWRCTRL3, 55 PWRCTRL2, 56 PWRCTRL1, 57 EP
part A text: BUCK1; BUCK2; BUCK3; BUCK4; BUCK5; BUCK7; BUCK6; REFDDR
part B text: LDO3; LDO5; LDO6; LDO7; LDO8; MUX; LDO1; LDO2; LDO4

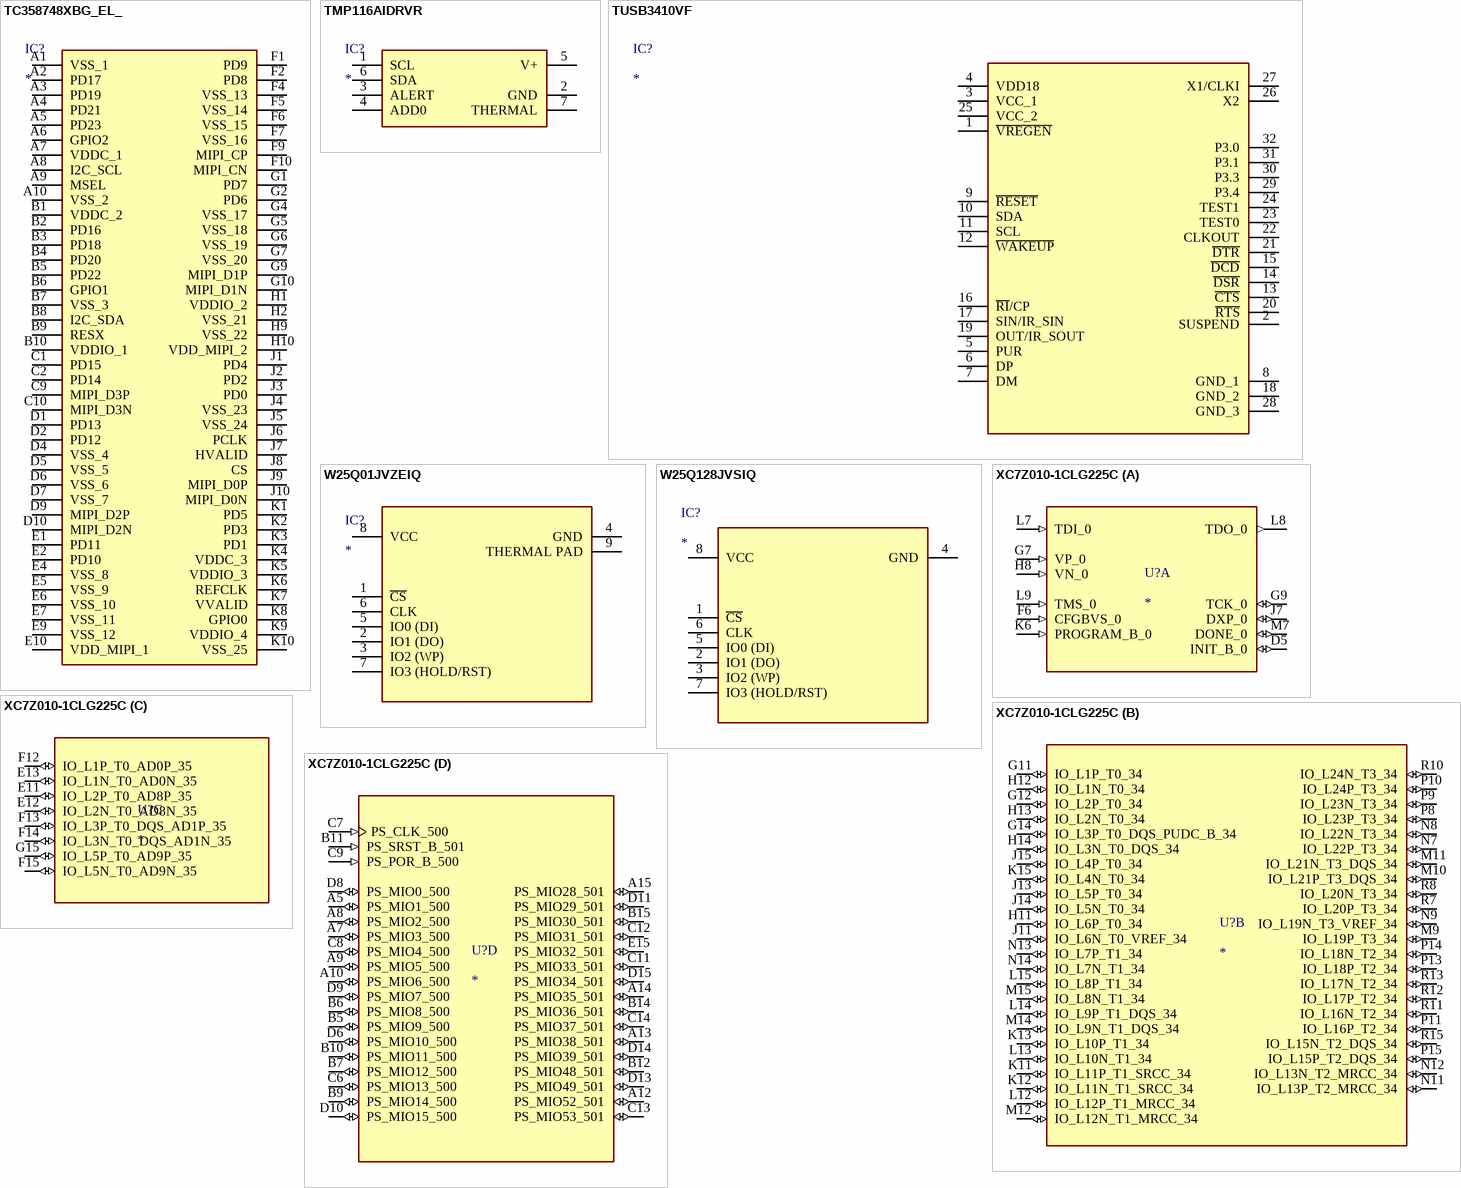
[diagram p7: symbols TC358748XBG_EL_ to XC7Z010-1CLG225C]

## TC358748XBG_EL_
designator IC?
Integrated Circuit; Manufacturer_Name: Toshiba; Manufacturer_Part_Number: TC358748XBG(EL); Datasheet Link: https://toshiba.semicon-storage.com/info/docget.jsp?did=30612&prodName=TC358748XBG; Height: 1mm; Mouser Part Number: 757-TC358748XBG-EL; Mouser Price/Stock: https://www.mouser.co.uk/ProductDetail/Toshiba/TC358748XBGEL?qs=81r%252BiQLm7BSy1DYUff6vuQ%3D%3D; Arrow Part Number: TC358748XBG(EL); Arrow Price/Stock: https://www.arrow.com/en/products/tc358748xbg-el/toshiba
footprint BGA80C65P10X10_700X700X100
pins: A1 VSS_1, A2 PD17, A3 PD19, A4 PD21, A5 PD23, A6 GPIO2, A7 VDDC_1, A8 I2C_SCL, A9 MSEL, A10 VSS_2, B1 VDDC_2, B2 PD16, B3 PD18, B4 PD20, B5 PD22, B6 GPIO1, B7 VSS_3, B8 I2C_SDA, B9 RESX, B10 VDDIO_1, C1 PD15, C2 PD14, C9 MIPI_D3P, C10 MIPI_D3N, D1 PD13, D2 PD12, D4 VSS_4, D5 VSS_5, D6 VSS_6, D7 VSS_7, D9 MIPI_D2P, D10 MIPI_D2N, E1 PD11, E2 PD10, E4 VSS_8, E5 VSS_9, E6 VSS_10, E7 VSS_11, E9 VSS_12, E10 VDD_MIPI_1, F1 PD9, F2 PD8, F4 VSS_13, F5 VSS_14, F6 VSS_15, F7 VSS_16, F9 MIPI_CP, F10 MIPI_CN, G1 PD7, G2 PD6, G4 VSS_17, G5 VSS_18, G6 VSS_19, G7 VSS_20, G9 MIPI_D1P, G10 MIPI_D1N, H1 VDDIO_2, H2 VSS_21, H9 VSS_22, H10 VDD_MIPI_2, J1 PD4, J2 PD2, J3 PD0, J4 VSS_23, J5 VSS_24, J6 PCLK, J7 HVALID, J8 CS, J9 MIPI_D0P, J10 MIPI_D0N, K1 PD5, K2 PD3, K3 PD1, K4 VDDC_3, K5 VDDIO_3, K6 REFCLK, K7 VVALID, K8 GPIO0, K9 VDDIO_4, K10 VSS_25

## TMP116AIDRVR
designator IC?
Integrated Circuit; Manufacturer_Name: Texas Instruments; Manufacturer_Part_Number: TMP116AIDRVR; Datasheet Link: http://www.ti.com/lit/gpn/tmp116; Height: 0.8mm; Mouser Part Number: 595-TMP116AIDRVR; Mouser Price/Stock: https://www.mouser.co.uk/ProductDetail/Texas-Instruments/TMP116AIDRVR?qs=gt1LBUVyoHkC4iqK5Vip8g%3D%3D; Arrow Part Number: TMP116AIDRVR; Arrow Price/Stock: https://www.arrow.com/en/products/tmp116aidrvr/texas-instruments?utm_currency=USD&region=nac
footprint SON65P200X200X80-7N
pins: 1 SCL, 2 GND, 3 ALERT, 4 ADD0, 5 V+, 6 SDA, 7 THERMAL

## TUSB3410VF
designator IC?
Integrated Circuit; Manufacturer_Name: Texas Instruments; Manufacturer_Part_Number: TUSB3410VF; Datasheet Link: http://www.ti.com/lit/ds/symlink/tusb3410.pdf; Height: 1.6mm; Mouser Part Number: 595-TUSB3410VF; Mouser Price/Stock: https://www.mouser.co.uk/ProductDetail/Texas-Instruments/TUSB3410VF?qs=0O%2FZFlpUpJV%2FAVBvq%2FS7EA%3D%3D; Arrow Part Number: TUSB3410VF; Arrow Price/Stock: https://www.arrow.com/en/products/tusb3410vf/texas-instruments?region=nac
footprint QFP80P900X900X160-32N
pins: 1 ~{VREGEN}, 2 SUSPEND, 3 VCC_1, 4 VDD18, 5 PUR, 6 DP, 7 DM, 8 GND_1, 9 ~{RESET}, 10 SDA, 11 SCL, 12 ~{WAKEUP}, 13 ~{CTS}, 14 ~{DSR}, 15 ~{DCD}, 16 ~{RI}/CP, 17 SIN/IR_SIN, 18 GND_2, 19 OUT/IR_SOUT, 20 ~{RTS}, 21 ~{DTR}, 22 CLKOUT, 23 TEST0, 24 TEST1, 25 VCC_2, 26 X2, 27 X1/CLKI, 28 GND_3, 29 P3.4, 30 P3.3, 31 P3.1, 32 P3.0